# Altium integrated library Atmel Microcontroller 32-Bit ARM.IntLib: 116 symbols (part 8 of 10)
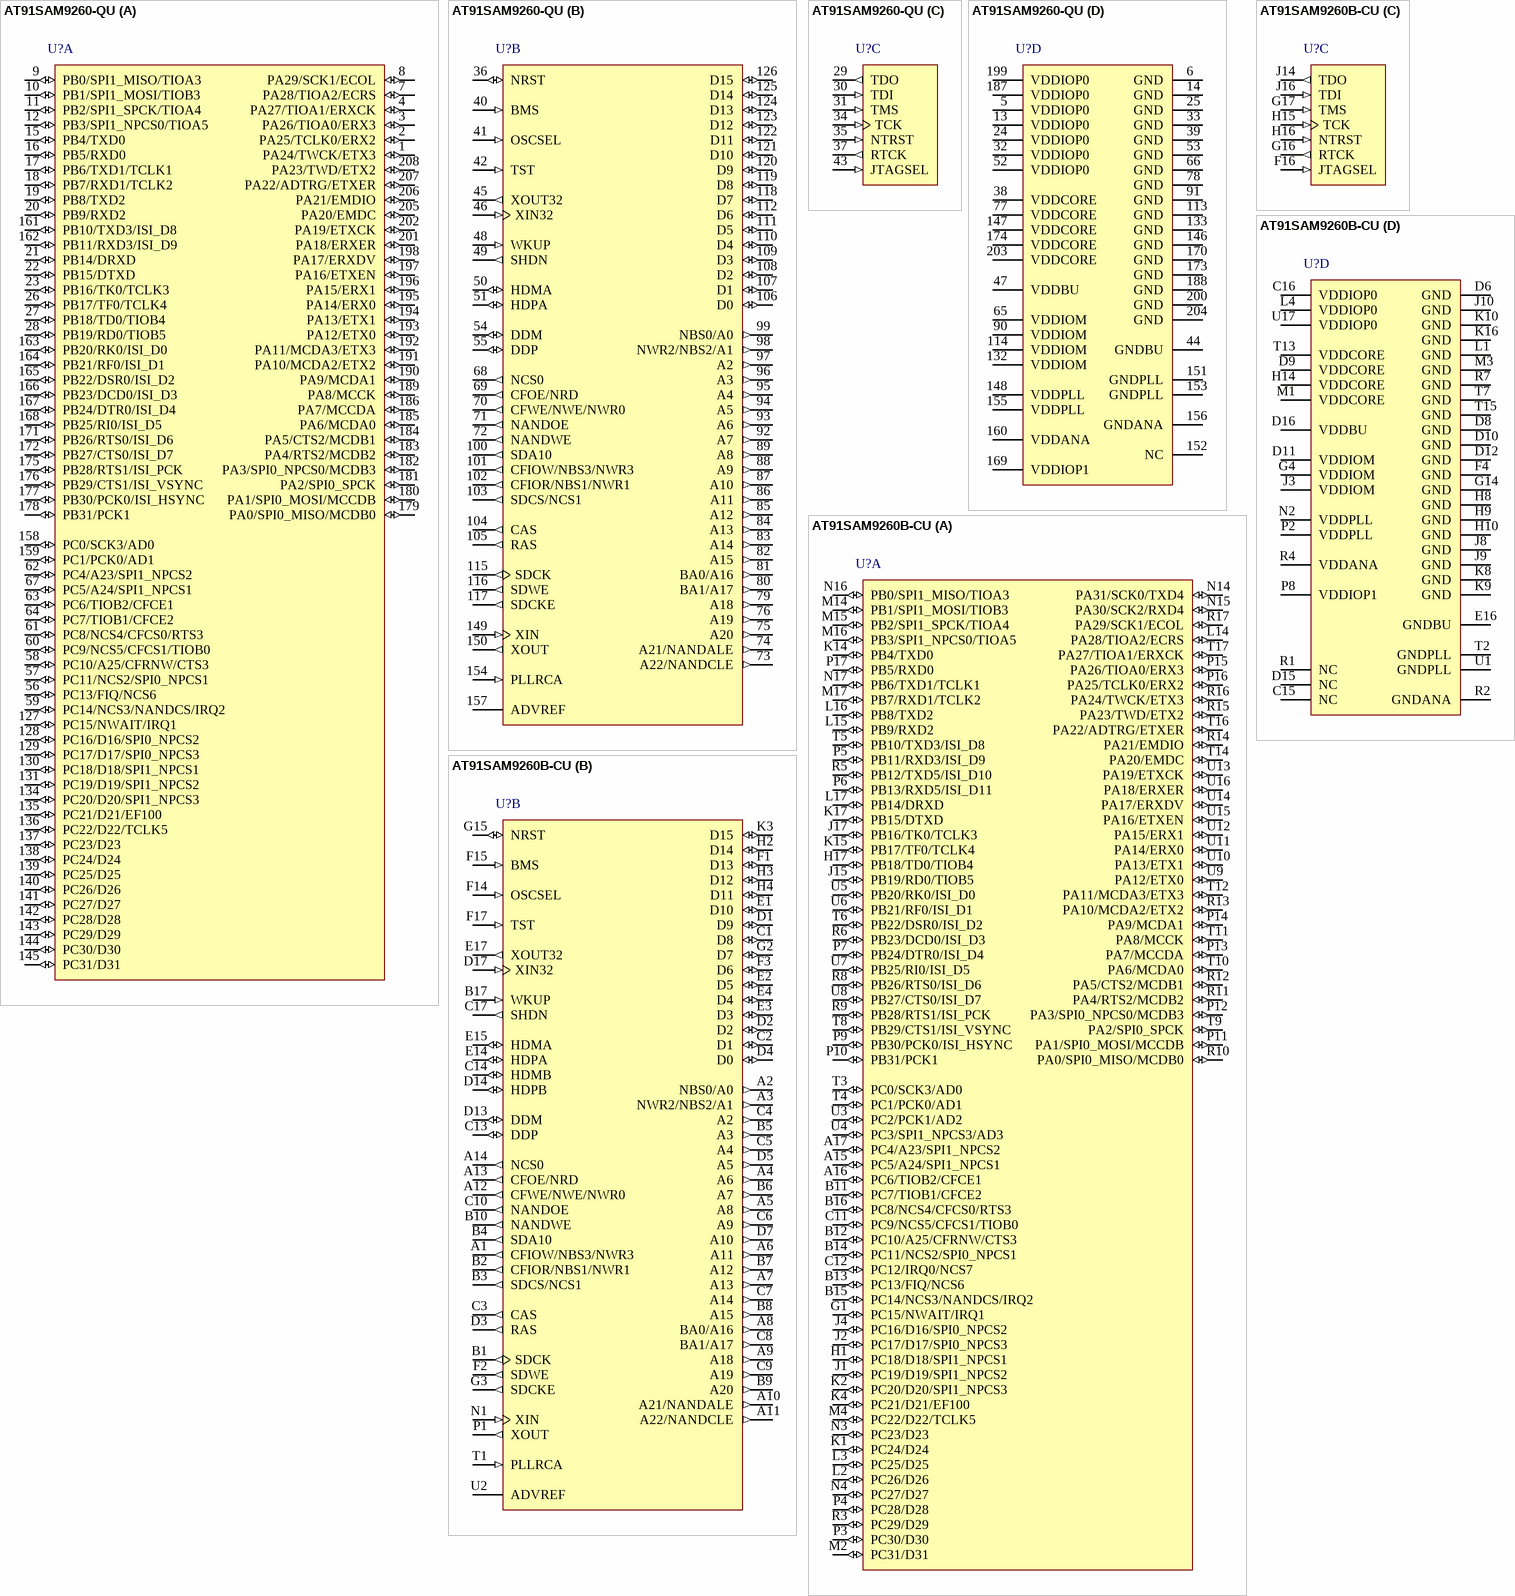
[diagram p59: symbols AT91SAM9260-QU to AT91SAM9260B-CU]

## AT91SAM9260B-CU
designator U?
AT91 ARM Thumb 32-bit Microcontroller, 32KB ROM, 2x4KB SRAM, EBI, E-MAC, FS USB, 217-Pin LFBGA, Industrial Grade (-40°C to 85°C), Pb-Free; Published: 20-Sep-2010; DatasheetVersion: revI, Jul-2009; PackageVersion: 2009; PackageReference: LFBGA217; Publisher: Altium Limited; PackageDescription: 217-Ball Plastic Low Profile Fine-Pitch BGA, 15 x 15 mm Body, 0.8 mm Pitch; Supplier 1: Digi-Key; Supplier Part Number 1: AT91SAM9260B-CU-ND; Supplier 2: Farnell; Supplier Part Number 2: 1715466; Supplier 3: Mouser; Supplier Part Number 3: 556-AT91SAM9260B-CU; Code_JEDEC: MO-205; ComponentLink1Description: Manufacturer Link; ComponentLink1URL: http://www.atmel.com/products/AT91/default.asp?; ComponentLink2Description: AT91SAM9260 Datasheet; ComponentLink2URL: http://www.atmel.com/dyn/resources/prod_documents/doc6221.pdf; ComponentLink3Description: AT91SAM9260 Summary; ComponentLink3URL: http://www.atmel.com/dyn/resources/prod_documents/6221s.pdf; ComponentLink4Description: ARM9E-S Reference Manual; ComponentLink4URL: http://www.atmel.com/dyn/resources/prod_documents/doc6178.pdf; ComponentLink5Description: Atmel.com Home; ComponentLink5URL: http://www.atmel.com
footprint LFBGA217 (BGA, 208-Leads, Body 15x15mm, Pitch 0.8mm)
part A pins: A15 PC5/A24/SPI1_NPCS1 (io), A16 PC6/TIOB2/CFCE1 (io), A17 PC4/A23/SPI1_NPCS2 (io), B11 PC7/TIOB1/CFCE2 (io), B12 PC10/A25/CFRNW/CTS3 (io), B13 PC13/FIQ/NCS6 (io), B14 PC11/NCS2/SPI0_NPCS1 (io), B15 PC14/NCS3/NANDCS/IRQ2 (io), B16 PC8/NCS4/CFCS0/RTS3 (io), C11 PC9/NCS5/CFCS1/TIOB0 (io), C12 PC12/IRQ0/NCS7 (io), G1 PC15/NWAIT/IRQ1 (io), H1 PC18/D18/SPI1_NPCS1 (io), H17 PB18/TD0/TIOB4 (io), J1 PC19/D19/SPI1_NPCS2 (io), J2 PC17/D17/SPI0_NPCS3 (io), J4 PC16/D16/SPI0_NPCS2 (io), J15 PB19/RD0/TIOB5 (io), J17 PB16/TK0/TCLK3 (io), K1 PC24/D24 (io), K2 PC20/D20/SPI1_NPCS3 (io), K4 PC21/D21/EF100 (io), K14 PB4/TXD0 (io), K15 PB17/TF0/TCLK4 (io), K17 PB15/DTXD (io), L2 PC26/D26 (io), L3 PC25/D25 (io), L14 PA28/TIOA2/ECRS (io), L15 PB9/RXD2 (io), L16 PB8/TXD2 (io), L17 PB14/DRXD (io), M2 PC31/D31 (io), M4 PC22/D22/TCLK5 (io), M14 PB1/SPI1_MOSI/TIOB3 (io), M15 PB2/SPI1_SPCK/TIOA4 (io), M16 PB3/SPI1_NPCS0/TIOA5 (io), M17 PB7/RXD1/TCLK2 (io), N3 PC23/D23 (io), N4 PC27/D27 (io), N14 PA31/SCK0/TXD4 (io), N15 PA30/SCK2/RXD4 (io), N16 PB0/SPI1_MISO/TIOA3 (io), N17 PB6/TXD1/TCLK1 (io), P3 PC30/D30 (io), P4 PC28/D28 (io), P5 PB11/RXD3/ISI_D9 (io), P6 PB13/RXD5/ISI_D11 (io), P7 PB24/DTR0/ISI_D4 (io), P9 PB30/PCK0/ISI_HSYNC (io), P10 PB31/PCK1 (io), P11 PA1/SPI0_MOSI/MCCDB (io), P12 PA3/SPI0_NPCS0/MCDB3 (io), P13 PA7/MCCDA (io), P14 PA9/MCDA1 (io), P15 PA26/TIOA0/ERX3 (io), P16 PA25/TCLK0/ERX2 (io), P17 PB5/RXD0 (io), R3 PC29/D29 (io), R5 PB12/TXD5/ISI_D10 (io), R6 PB23/DCD0/ISI_D3 (io), R8 PB26/RTS0/ISI_D6 (io), R9 PB28/RTS1/ISI_PCK (io), R10 PA0/SPI0_MISO/MCDB0 (io), R11 PA4/RTS2/MCDB2 (io), R12 PA5/CTS2/MCDB1 (io), R13 PA10/MCDA2/ETX2 (io), R14 PA21/EMDIO (io), R15 PA23/TWD/ETX2 (io), R16 PA24/TWCK/ETX3 (io), R17 PA29/SCK1/ECOL (io), T3 PC0/SCK3/AD0 (io), T4 PC1/PCK0/AD1 (io), T5 PB10/TXD3/ISI_D8 (io), T6 PB22/DSR0/ISI_D2 (io), T8 PB29/CTS1/ISI_VSYNC (io), T9 PA2/SPI0_SPCK (io), T10 PA6/MCDA0 (io), T11 PA8/MCCK (io), T12 PA11/MCDA3/ETX3 (io), T14 PA20/EMDC (io), T16 PA22/ADTRG/ETXER (io), T17 PA27/TIOA1/ERXCK (io), U3 PC2/PCK1/AD2 (io), U4 PC3/SPI1_NPCS3/AD3 (io), U5 PB20/RK0/ISI_D0 (io), U6 PB21/RF0/ISI_D1 (io), U7 PB25/RI0/ISI_D5 (io), U8 PB27/CTS0/ISI_D7 (io), U9 PA12/ETX0 (io), U10 PA13/ETX1 (io), U11 PA14/ERX0 (io), U12 PA15/ERX1 (io), U13 PA19/ETXCK (io), U14 PA17/ERXDV (io), U15 PA16/ETXEN (io), U16 PA18/ERXER (io)
part B pins: A1 CFIOW/NBS3/NWR3 (out), A2 NBS0/A0 (out), A3 NWR2/NBS2/A1 (out), A4 A6 (out), A5 A8 (out), A6 A11 (out), A7 A13 (out), A8 BA0/A16 (out), A9 A18 (out), A10 A21/NANDALE (out), A11 A22/NANDCLE (out), A12 CFWE/NWE/NWR0 (out), A13 CFOE/NRD (out), A14 NCS0 (out), B1 SDCK (out), B2 CFIOR/NBS1/NWR1 (out), B3 SDCS/NCS1 (out), B4 SDA10 (out), B5 A3 (out), B6 A7 (out), B7 A12 (out), B8 A15 (out), B9 A20 (out), B10 NANDWE (out), B17 WKUP (in), C1 D8 (io), C2 D1 (io), C3 CAS (out), C4 A2 (out), C5 A4 (out), C6 A9 (out), C7 A14 (out), C8 BA1/A17 (out), C9 A19 (out), C10 NANDOE (out), C13 DDP (io), C14 HDMB (io), C17 SHDN (out), D1 D9 (io), D2 (io), D3 RAS (out), D4 D0 (io), D5 A5 (out), D7 A10 (out), D13 DDM (io), D14 HDPB (io), D17 XIN32 (in), E1 D10 (io), E2 D5 (io), E3 D3 (io), E4 D4 (io), E14 HDPA (io), E15 HDMA (io), E17 XOUT32 (out), F1 D13 (io), F2 SDWE (out), F3 D6 (io), F14 OSCSEL (in), F15 BMS (in), F17 TST (in), G2 D7 (io), G3 SDCKE (out), G15 NRST (io), H2 D14 (io), H3 D12 (io), H4 D11 (io), K3 D15 (io), N1 XIN (in), P1 XOUT (out), T1 PLLRCA (in), U2 ADVREF (power)
part C pins: F16 JTAGSEL (in), G16 RTCK (out), G17 TMS (in), H15 TCK (in), H16 NTRST (in), J14 TDO (out), J16 TDI (in)
part D pins: C15 NC, C16 VDDIOP0 (power), D6 GND (power), D8 GND (power), D9 VDDCORE (power), D10 GND (power), D11 VDDIOM (power), D12 GND (power), D15 NC, D16 VDDBU (power), E16 GNDBU (power), F4 GND (power), G4 VDDIOM (power), G14 GND (power), H8 GND (power), H9 GND (power), H10 GND (power), H14 VDDCORE (power), J3 VDDIOM (power), J8 GND (power), J9 GND (power), J10 GND (power), K8 GND (power), K9 GND (power), K10 GND (power), K16 GND (power), L1 GND (power), L4 VDDIOP0 (power), M1 VDDCORE (power), M3 GND (power), N2 VDDPLL (power), P2 VDDPLL (power), P8 VDDIOP1 (power), R1 NC, R2 GNDANA (power), R4 VDDANA (power), R7 GND (power), T2 GNDPLL (power), T7 GND (power), T13 VDDCORE (power), T15 GND (power), U1 GNDPLL (power), U17 VDDIOP0 (power)

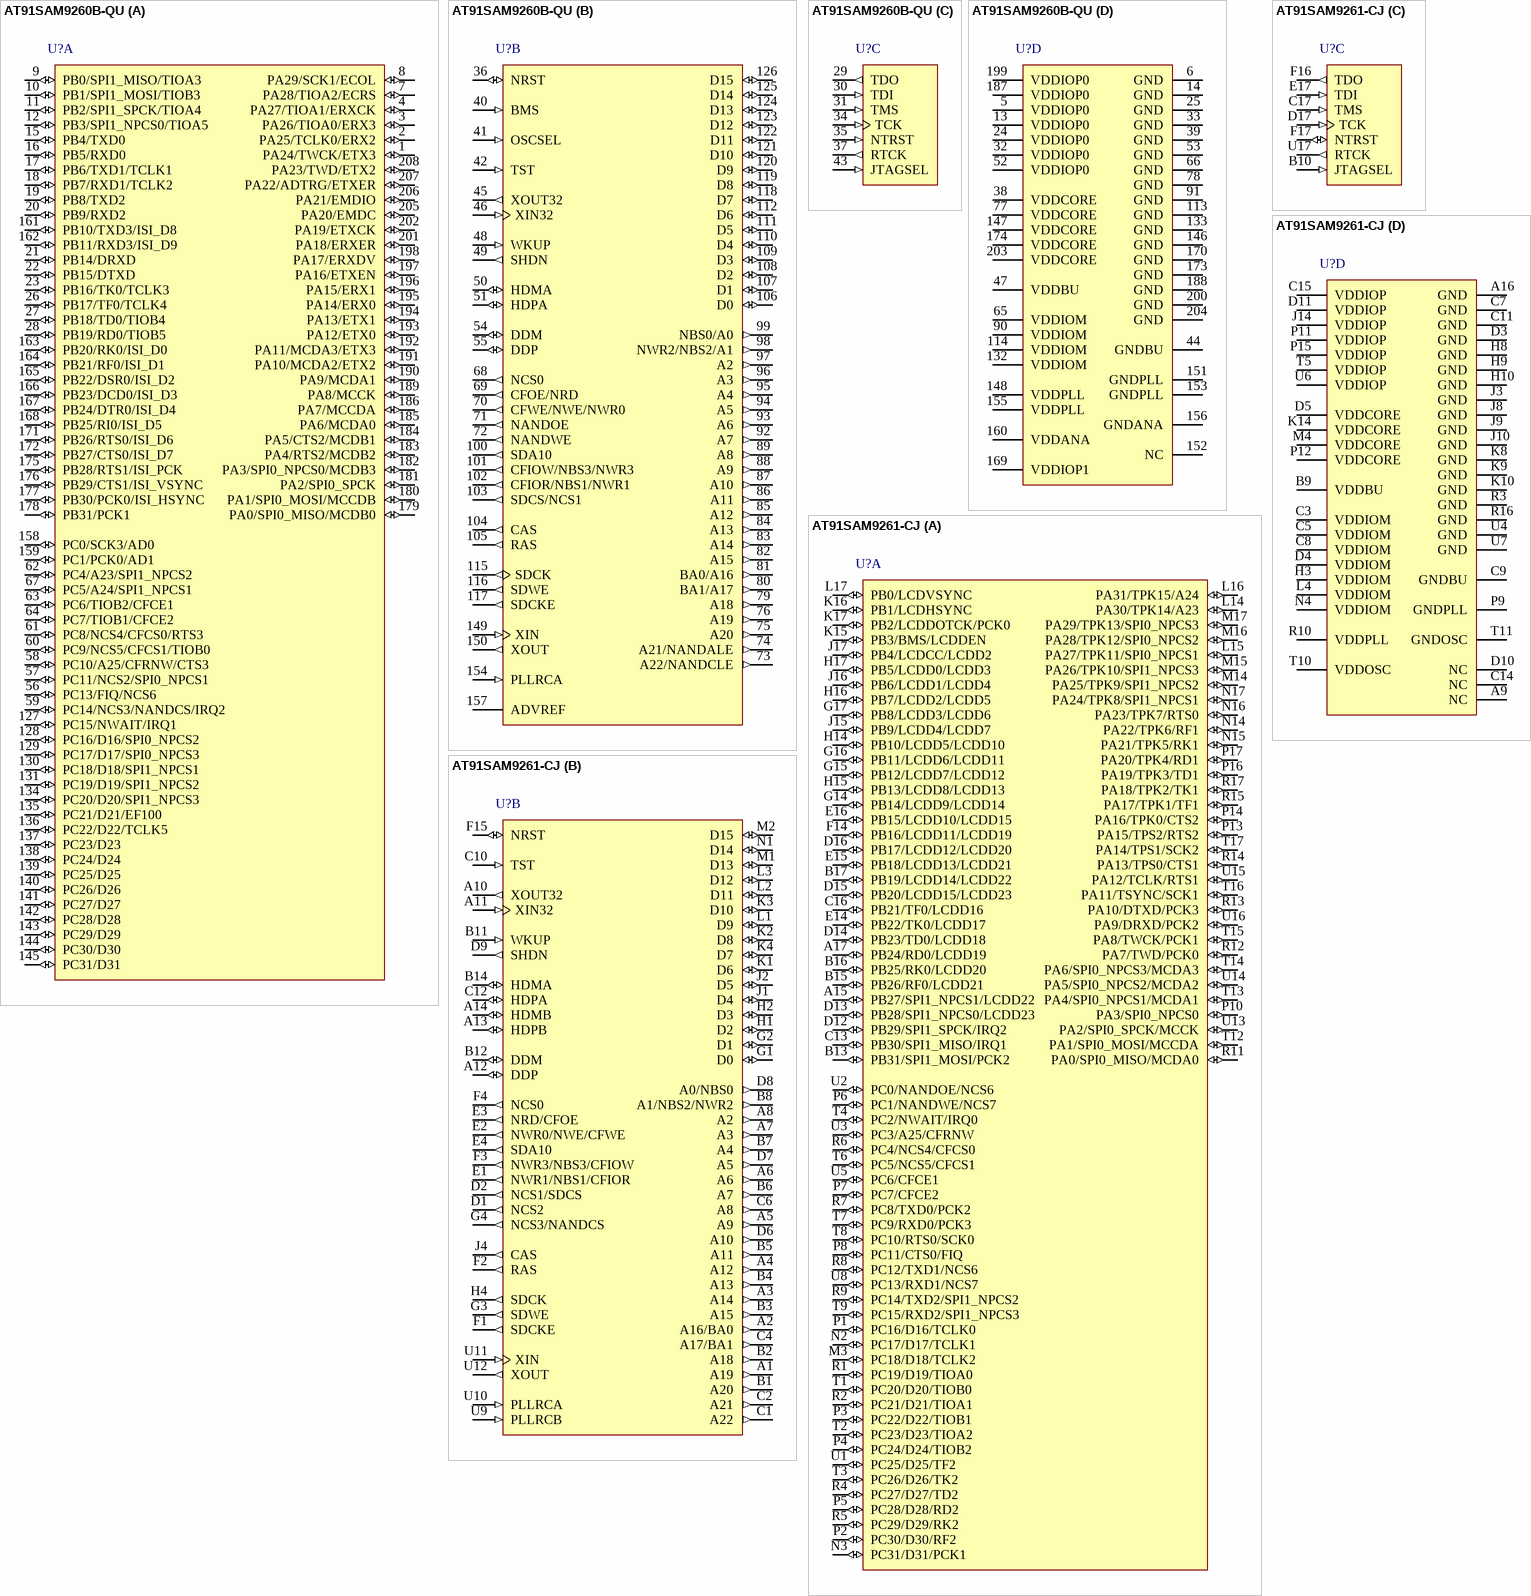
[diagram p41: symbols AT91SAM9260B-QU to AT91SAM9261-CJ]

## AT91SAM9260B-QU
designator U?
AT91 ARM Thumb 32-bit Microcontroller, 32KB ROM, 2x4KB SRAM, EBI, E-MAC, FS USB, 208-Pin PQFP, Industrial Grade (-40°C to 85°C), Pb-Free; Published: 20-Sep-2010; DatasheetVersion: revI, Jul-2009; PackageVersion: Jul-2005; PackageReference: QFP208; Publisher: Altium Limited; PackageDescription: 208-Pin Plastic Shrink Quad Flat Pack 0.5 mm Pitch; Supplier 1: Digi-Key; Supplier Part Number 1: AT91SAM9260B-QU-ND; Supplier 2: Mouser; Supplier Part Number 2: 556-AT91SAM9260B-QU; Code_JEDEC: MS-022; ComponentLink1Description: Manufacturer Link; ComponentLink1URL: http://www.atmel.com/products/AT91/default.asp?; ComponentLink2Description: AT91SAM9260 Datasheet; ComponentLink2URL: http://www.atmel.com/dyn/resources/prod_documents/doc6221.pdf; ComponentLink3Description: AT91SAM9260 Summary; ComponentLink3URL: http://www.atmel.com/dyn/resources/prod_documents/6221s.pdf; ComponentLink4Description: ARM9E-S Reference Manual; ComponentLink4URL: http://www.atmel.com/dyn/resources/prod_documents/doc6178.pdf; ComponentLink5Description: Atmel.com Home; ComponentLink5URL: http://www.atmel.com
footprint QFP208_N (Shrink QFP, 208-Leads, Body 28x28mm, Pitch 0.5mm, IPC Medium Density)
footprint QFP208_L (Shrink QFP, 208-Leads, Body 28x28mm, Pitch 0.5mm, IPC High Density)
footprint QFP208_M (Shrink QFP, 208-Leads, Body 28x28mm, Pitch 0.5mm, IPC Low Density)
part A pins: 1 PA24/TWCK/ETX3 (io), 2 PA25/TCLK0/ERX2 (io), 3 PA26/TIOA0/ERX3 (io), 4 PA27/TIOA1/ERXCK (io), 7 PA28/TIOA2/ECRS (io), 8 PA29/SCK1/ECOL (io), 9 PB0/SPI1_MISO/TIOA3 (io), 10 PB1/SPI1_MOSI/TIOB3 (io), 11 PB2/SPI1_SPCK/TIOA4 (io), 12 PB3/SPI1_NPCS0/TIOA5 (io), 15 PB4/TXD0 (io), 16 PB5/RXD0 (io), 17 PB6/TXD1/TCLK1 (io), 18 PB7/RXD1/TCLK2 (io), 19 PB8/TXD2 (io), 20 PB9/RXD2 (io), 21 PB14/DRXD (io), 22 PB15/DTXD (io), 23 PB16/TK0/TCLK3 (io), 26 PB17/TF0/TCLK4 (io), 27 PB18/TD0/TIOB4 (io), 28 PB19/RD0/TIOB5 (io), 56 PC13/FIQ/NCS6 (io), 57 PC11/NCS2/SPI0_NPCS1 (io), 58 PC10/A25/CFRNW/CTS3 (io), 59 PC14/NCS3/NANDCS/IRQ2 (io), 60 PC9/NCS5/CFCS1/TIOB0 (io), 61 PC8/NCS4/CFCS0/RTS3 (io), 62 PC4/A23/SPI1_NPCS2 (io), 63 PC6/TIOB2/CFCE1 (io), 64 PC7/TIOB1/CFCE2 (io), 67 PC5/A24/SPI1_NPCS1 (io), 127 PC15/NWAIT/IRQ1 (io), 128 PC16/D16/SPI0_NPCS2 (io), 129 PC17/D17/SPI0_NPCS3 (io), 130 PC18/D18/SPI1_NPCS1 (io), 131 PC19/D19/SPI1_NPCS2 (io), 134 PC20/D20/SPI1_NPCS3 (io), 135 PC21/D21/EF100 (io), 136 PC22/D22/TCLK5 (io), 137 PC23/D23 (io), 138 PC24/D24 (io), 139 PC25/D25 (io), 140 PC26/D26 (io), 141 PC27/D27 (io), 142 PC28/D28 (io), 143 PC29/D29 (io), 144 PC30/D30 (io), 145 PC31/D31 (io), 158 PC0/SCK3/AD0 (io), 159 PC1/PCK0/AD1 (io), 161 PB10/TXD3/ISI_D8 (io), 162 PB11/RXD3/ISI_D9 (io), 163 PB20/RK0/ISI_D0 (io), 164 PB21/RF0/ISI_D1 (io), 165 PB22/DSR0/ISI_D2 (io), 166 PB23/DCD0/ISI_D3 (io), 167 PB24/DTR0/ISI_D4 (io), 168 PB25/RI0/ISI_D5 (io), 171 PB26/RTS0/ISI_D6 (io), 172 PB27/CTS0/ISI_D7 (io), 175 PB28/RTS1/ISI_PCK (io), 176 PB29/CTS1/ISI_VSYNC (io), 177 PB30/PCK0/ISI_HSYNC (io), 178 PB31/PCK1 (io), 179 PA0/SPI0_MISO/MCDB0 (io), 180 PA1/SPI0_MOSI/MCCDB (io), 181 PA2/SPI0_SPCK (io), 182 PA3/SPI0_NPCS0/MCDB3 (io), 183 PA4/RTS2/MCDB2 (io), 184 PA5/CTS2/MCDB1 (io), 185 PA6/MCDA0 (io), 186 PA7/MCCDA (io), 189 PA8/MCCK (io), 190 PA9/MCDA1 (io), 191 PA10/MCDA2/ETX2 (io), 192 PA11/MCDA3/ETX3 (io), 193 PA12/ETX0 (io), 194 PA13/ETX1 (io), 195 PA14/ERX0 (io), 196 PA15/ERX1 (io), 197 PA16/ETXEN (io), 198 PA17/ERXDV (io), 201 PA18/ERXER (io), 202 PA19/ETXCK (io), 205 PA20/EMDC (io), 206 PA21/EMDIO (io), 207 PA22/ADTRG/ETXER (io), 208 PA23/TWD/ETX2 (io)
part B pins: 36 NRST (io), 40 BMS (in), 41 OSCSEL (in), 42 TST (in), 45 XOUT32 (out), 46 XIN32 (in), 48 WKUP (in), 49 SHDN (out), 50 HDMA (io), 51 HDPA (io), 54 DDM (io), 55 DDP (io), 68 NCS0 (out), 69 CFOE/NRD (out), 70 CFWE/NWE/NWR0 (out), 71 NANDOE (out), 72 NANDWE (out), 73 A22/NANDCLE (out), 74 A21/NANDALE (out), 75 A20 (out), 76 A19 (out), 79 A18 (out), 80 BA1/A17 (out), 81 BA0/A16 (out), 82 A15 (out), 83 A14 (out), 84 A13 (out), 85 A12 (out), 86 A11 (out), 87 A10 (out), 88 A9 (out), 89 A8 (out), 92 A7 (out), 93 A6 (out), 94 A5 (out), 95 A4 (out), 96 A3 (out), 97 A2 (out), 98 NWR2/NBS2/A1 (out), 99 NBS0/A0 (out), 100 SDA10 (out), 101 CFIOW/NBS3/NWR3 (out), 102 CFIOR/NBS1/NWR1 (out), 103 SDCS/NCS1 (out), 104 CAS (out), 105 RAS (out), 106 D0 (io), 107 D1 (io), 108 D2 (io), 109 D3 (io), 110 D4 (io), 111 D5 (io), 112 D6 (io), 115 SDCK (out), 116 SDWE (out), 117 SDCKE (out), 118 D7 (io), 119 D8 (io), 120 D9 (io), 121 D10 (io), 122 D11 (io), 123 D12 (io), 124 D13 (io), 125 D14 (io), 126 D15 (io), 149 XIN (in), 150 XOUT (out), 154 PLLRCA (in), 157 ADVREF (power)
part C pins: 29 TDO (out), 30 TDI (in), 31 TMS (in), 34 TCK (in), 35 NTRST (in), 37 RTCK (out), 43 JTAGSEL (in)
part D pins: 5 VDDIOP0 (power), 6 GND (power), 13 VDDIOP0 (power), 14 GND (power), 24 VDDIOP0 (power), 25 GND (power), 32 VDDIOP0 (power), 33 GND (power), 38 VDDCORE (power), 39 GND (power), 44 GNDBU (power), 47 VDDBU (power), 52 VDDIOP0 (power), 53 GND (power), 65 VDDIOM (power), 66 GND (power), 77 VDDCORE (power), 78 GND (power), 90 VDDIOM (power), 91 GND (power), 113 GND (power), 114 VDDIOM (power), 132 VDDIOM (power), 133 GND (power), 146 GND (power), 147 VDDCORE (power), 148 VDDPLL (power), 151 GNDPLL (power), 152 NC, 153 GNDPLL (power), 155 VDDPLL (power), 156 GNDANA (power), 160 VDDANA (power), 169 VDDIOP1 (power), 170 GND (power), 173 GND (power), 174 VDDCORE (power), 187 VDDIOP0 (power), 188 GND (power), 199 VDDIOP0 (power), 200 GND (power), 203 VDDCORE (power), 204 GND (power)

## AT91SAM9261-CJ
designator U?
AT91 ARM Thumb 32-bit Microcontroller, Ultra Low Power, 160KB SRAM, EBI, FS USB, LCD Controller, 217-Pin LFBGA, Industrial Grade (-40°C to 85°C), Pb-Free; Published: 20-Sep-2010; DatasheetVersion: revM, Mar-2009; PackageVersion: 2009; PackageReference: LFBGA217; Publisher: Altium Limited; PackageDescription: 217-Ball Plastic Low Profile Fine-Pitch BGA, 15 x 15 mm Body, 0.8 mm Pitch; Supplier 1: Digi-Key; Supplier Part Number 1: AT91SAM9261-CJ-ND; Supplier 2: Mouser; Supplier Part Number 2: 556-A91SAM9261-CJ; Code_JEDEC: MO-205; ComponentLink1Description: Manufacturer Link; ComponentLink1URL: http://www.atmel.com/products/AT91/default.asp?; ComponentLink2Description: AT91SAM9261 Datasheet; ComponentLink2URL: http://www.atmel.com/dyn/resources/prod_documents/doc6062.pdf; ComponentLink3Description: AT91SAM9261 Summary; ComponentLink3URL: http://www.atmel.com/dyn/resources/prod_documents/6062s.pdf; ComponentLink4Description: ARM926EJ-S Reference Manual; ComponentLink4URL: http://www.atmel.com/dyn/resources/prod_documents/ARM_926EJS_TRM.pdf; ComponentLink5Description: Atmel.com Home; ComponentLink5URL: http://www.atmel.com
footprint LFBGA217 (BGA, 208-Leads, Body 15x15mm, Pitch 0.8mm)
part A pins: A15 PB27/SPI1_NPCS1/LCDD22 (io), A17 PB24/RD0/LCDD19 (io), B13 PB31/SPI1_MOSI/PCK2 (io), B15 PB26/RF0/LCDD21 (io), B16 PB25/RK0/LCDD20 (io), B17 PB19/LCDD14/LCDD22 (io), C13 PB30/SPI1_MISO/IRQ1 (io), C16 PB21/TF0/LCDD16 (io), D12 PB29/SPI1_SPCK/IRQ2 (io), D13 PB28/SPI1_NPCS0/LCDD23 (io), D14 PB23/TD0/LCDD18 (io), D15 PB20/LCDD15/LCDD23 (io), D16 PB17/LCDD12/LCDD20 (io), E14 PB22/TK0/LCDD17 (io), E15 PB18/LCDD13/LCDD21 (io), E16 PB15/LCDD10/LCDD15 (io), F14 PB16/LCDD11/LCDD19 (io), G14 PB14/LCDD9/LCDD14 (io), G15 PB12/LCDD7/LCDD12 (io), G16 PB11/LCDD6/LCDD11 (io), G17 PB8/LCDD3/LCDD6 (io), H14 PB10/LCDD5/LCDD10 (io), H15 PB13/LCDD8/LCDD13 (io), H16 PB7/LCDD2/LCDD5 (io), H17 PB5/LCDD0/LCDD3 (io), J15 PB9/LCDD4/LCDD7 (io), J16 PB6/LCDD1/LCDD4 (io), J17 PB4/LCDCC/LCDD2 (io), K15 PB3/BMS/LCDDEN (io), K16 PB1/LCDHSYNC (io), K17 PB2/LCDDOTCK/PCK0 (io), L14 PA30/TPK14/A23 (io), L15 PA27/TPK11/SPI0_NPCS1 (io), L16 PA31/TPK15/A24 (io), L17 PB0/LCDVSYNC (io), M3 PC18/D18/TCLK2 (io), M14 PA25/TPK9/SPI1_NPCS2 (io), M15 PA26/TPK10/SPI1_NPCS3 (io), M16 PA28/TPK12/SPI0_NPCS2 (io), M17 PA29/TPK13/SPI0_NPCS3 (io), N2 PC17/D17/TCLK1 (io), N3 PC31/D31/PCK1 (io), N14 PA22/TPK6/RF1 (io), N15 PA21/TPK5/RK1 (io), N16 PA23/TPK7/RTS0 (io), N17 PA24/TPK8/SPI1_NPCS1 (io), P1 PC16/D16/TCLK0 (io), P2 PC30/D30/RF2 (io), P3 PC22/D22/TIOB1 (io), P4 PC24/D24/TIOB2 (io), P5 PC28/D28/RD2 (io), P6 PC1/NANDWE/NCS7 (io), P7 PC7/CFCE2 (io), P8 PC11/CTS0/FIQ (io), P10 PA3/SPI0_NPCS0 (io), P13 PA15/TPS2/RTS2 (io), P14 PA16/TPK0/CTS2 (io), P16 PA19/TPK3/TD1 (io), P17 PA20/TPK4/RD1 (io), R1 PC19/D19/TIOA0 (io), R2 PC21/D21/TIOA1 (io), R4 PC27/D27/TD2 (io), R5 PC29/D29/RK2 (io), R6 PC4/NCS4/CFCS0 (io), R7 PC8/TXD0/PCK2 (io), R8 PC12/TXD1/NCS6 (io), R9 PC14/TXD2/SPI1_NPCS2 (io), R11 PA0/SPI0_MISO/MCDA0 (io), R12 PA7/TWD/PCK0 (io), R13 PA10/DTXD/PCK3 (io), R14 PA13/TPS0/CTS1 (io), R15 PA17/TPK1/TF1 (io), R17 PA18/TPK2/TK1 (io), T1 PC20/D20/TIOB0 (io), T2 PC23/D23/TIOA2 (io), T3 PC26/D26/TK2 (io), T4 PC2/NWAIT/IRQ0 (io), T6 PC5/NCS5/CFCS1 (io), T7 PC9/RXD0/PCK3 (io), T8 PC10/RTS0/SCK0 (io), T9 PC15/RXD2/SPI1_NPCS3 (io), T12 PA1/SPI0_MOSI/MCCDA (io), T13 PA4/SPI0_NPCS1/MCDA1 (io), T14 PA6/SPI0_NPCS3/MCDA3 (io), T15 PA8/TWCK/PCK1 (io), T16 PA11/TSYNC/SCK1 (io), T17 PA14/TPS1/SCK2 (io), U1 PC25/D25/TF2 (io), U2 PC0/NANDOE/NCS6 (io), U3 PC3/A25/CFRNW (io), U5 PC6/CFCE1 (io), U8 PC13/RXD1/NCS7 (io), U13 PA2/SPI0_SPCK/MCCK (io), U14 PA5/SPI0_NPCS2/MCDA2 (io), U15 PA12/TCLK/RTS1 (io), U16 PA9/DRXD/PCK2 (io)
part B pins: A1 A19 (out), A2 A16/BA0 (out), A3 A14 (out), A4 A12 (out), A5 A9 (out), A6 (out), A7 A3 (out), A8 A2 (out), A10 XOUT32 (out), A11 XIN32 (in), A12 DDP (io), A13 HDPB (io), A14 HDMB (io), B1 A20 (out), B2 A18 (out), B3 A15 (out), B4 A13 (out), B5 A11 (out), B6 A7 (out), B7 A4 (out), B8 A1/NBS2/NWR2 (out), B11 WKUP (in), B12 DDM (io), B14 HDMA (io), C1 A22 (out), C2 A21 (out), C4 A17/BA1 (out), C6 A8 (out), C10 TST (in), C12 HDPA (io), D1 NCS2 (out), D2 NCS1/SDCS (out), D6 A10 (out), D7 A5 (out), D8 A0/NBS0 (out), D9 SHDN (out), E1 NWR1/NBS1/CFIOR (out), E2 NWR0/NWE/CFWE (out), E3 NRD/CFOE (out), E4 SDA10 (out), F1 SDCKE (out), F2 RAS (out), F3 NWR3/NBS3/CFIOW (out), F4 NCS0 (out), F15 NRST (io), G1 D0 (io), G2 D1 (io), G3 SDWE (out), G4 NCS3/NANDCS (out), H1 D2 (io), H2 D3 (io), H4 SDCK (out), J1 D4 (io), J2 D5 (io), J4 CAS (out), K1 D6 (io), K2 D8 (io), K3 D10 (io), K4 D7 (io), L1 D9 (io), L2 D11 (io), L3 D12 (io), M1 D13 (io), M2 D15 (io), N1 D14 (io), U9 PLLRCB (in), U10 PLLRCA (in), U11 XIN (in), U12 XOUT (out)
part C pins: B10 JTAGSEL (in), C17 TMS (in), D17 TCK (in), E17 TDI (in), F16 TDO (out), F17 NTRST (io), U17 RTCK (out)
part D pins: A9 NC, A16 GND (power), B9 VDDBU (power), C3 VDDIOM (power), C5 VDDIOM (power), C7 GND (power), C8 VDDIOM (power), C9 GNDBU (power), C11 GND (power), C14 NC, C15 VDDIOP (power), D3 GND (power), D4 VDDIOM (power), D5 VDDCORE (power), D10 NC, D11 VDDIOP (power), H3 VDDIOM (power), H8 GND (power), H9 GND (power), H10 GND (power), J3 GND (power), J8 GND (power), J9 GND (power), J10 GND (power), J14 VDDIOP (power), K8 GND (power), K9 GND (power), K10 GND (power), K14 VDDCORE (power), L4 VDDIOM (power), M4 VDDCORE (power), N4 VDDIOM (power), P9 GNDPLL (power), P11 VDDIOP (power), P12 VDDCORE (power), P15 VDDIOP (power), R3 GND (power), R10 VDDPLL (power), R16 GND (power), T5 VDDIOP (power), T10 VDDOSC (power), T11 GNDOSC (power), U4 GND (power), U6 VDDIOP (power), U7 GND (power)

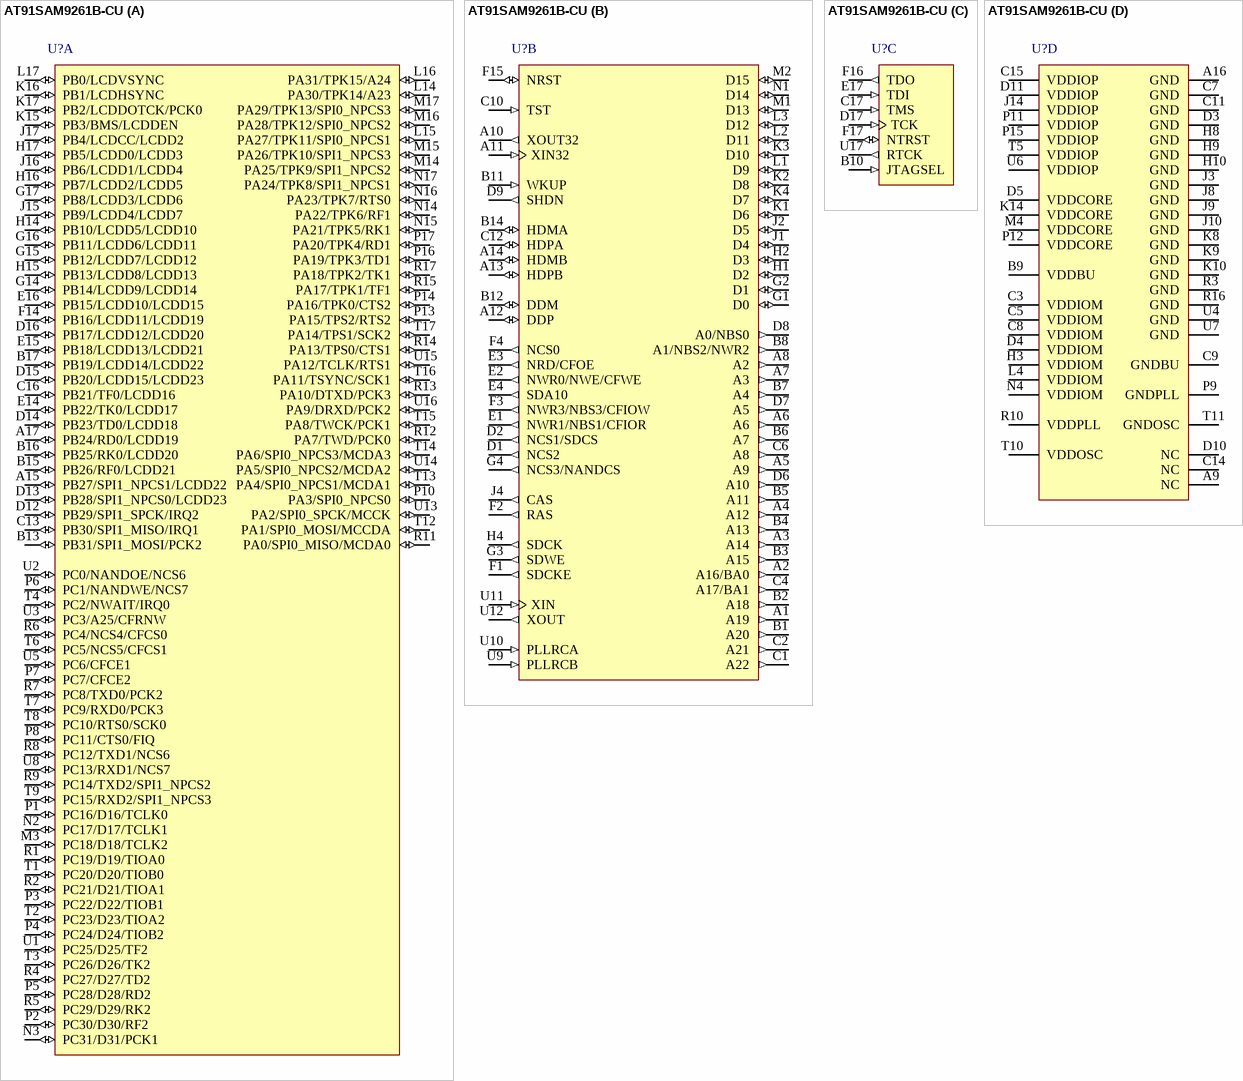
[diagram p42: symbol AT91SAM9261B-CU]

## AT91SAM9261B-CU
designator U?
AT91 ARM Thumb 32-bit Microcontroller, Ultra Low Power, 160KB SRAM, EBI, FS USB, LCD Controller, 217-Pin LFBGA, Industrial Grade (-40°C to 85°C), Pb-Free; Published: 20-Sep-2010; DatasheetVersion: revM, Mar-2009; PackageVersion: 2009; PackageReference: LFBGA217; Publisher: Altium Limited; PackageDescription: 217-Ball Plastic Low Profile Fine-Pitch BGA, 15 x 15 mm Body, 0.8 mm Pitch; Supplier 1: Digi-Key; Supplier Part Number 1: AT91SAM9261B-CU-ND; Supplier 2: Farnell; Supplier Part Number 2: 1748504; Supplier 3: Mouser; Supplier Part Number 3: 556-AT91SAM9261B-CU; Code_JEDEC: MO-205; ComponentLink1Description: Manufacturer Link; ComponentLink1URL: http://www.atmel.com/products/AT91/default.asp?; ComponentLink2Description: AT91SAM9261 Datasheet; ComponentLink2URL: http://www.atmel.com/dyn/resources/prod_documents/doc6062.pdf; ComponentLink3Description: AT91SAM9261 Summary; ComponentLink3URL: http://www.atmel.com/dyn/resources/prod_documents/6062s.pdf; ComponentLink4Description: ARM926EJ-S Reference Manual; ComponentLink4URL: http://www.atmel.com/dyn/resources/prod_documents/ARM_926EJS_TRM.pdf; ComponentLink5Description: Atmel.com Home; ComponentLink5URL: http://www.atmel.com
footprint LFBGA217 (BGA, 208-Leads, Body 15x15mm, Pitch 0.8mm)
part A pins: A15 PB27/SPI1_NPCS1/LCDD22 (io), A17 PB24/RD0/LCDD19 (io), B13 PB31/SPI1_MOSI/PCK2 (io), B15 PB26/RF0/LCDD21 (io), B16 PB25/RK0/LCDD20 (io), B17 PB19/LCDD14/LCDD22 (io), C13 PB30/SPI1_MISO/IRQ1 (io), C16 PB21/TF0/LCDD16 (io), D12 PB29/SPI1_SPCK/IRQ2 (io), D13 PB28/SPI1_NPCS0/LCDD23 (io), D14 PB23/TD0/LCDD18 (io), D15 PB20/LCDD15/LCDD23 (io), D16 PB17/LCDD12/LCDD20 (io), E14 PB22/TK0/LCDD17 (io), E15 PB18/LCDD13/LCDD21 (io), E16 PB15/LCDD10/LCDD15 (io), F14 PB16/LCDD11/LCDD19 (io), G14 PB14/LCDD9/LCDD14 (io), G15 PB12/LCDD7/LCDD12 (io), G16 PB11/LCDD6/LCDD11 (io), G17 PB8/LCDD3/LCDD6 (io), H14 PB10/LCDD5/LCDD10 (io), H15 PB13/LCDD8/LCDD13 (io), H16 PB7/LCDD2/LCDD5 (io), H17 PB5/LCDD0/LCDD3 (io), J15 PB9/LCDD4/LCDD7 (io), J16 PB6/LCDD1/LCDD4 (io), J17 PB4/LCDCC/LCDD2 (io), K15 PB3/BMS/LCDDEN (io), K16 PB1/LCDHSYNC (io), K17 PB2/LCDDOTCK/PCK0 (io), L14 PA30/TPK14/A23 (io), L15 PA27/TPK11/SPI0_NPCS1 (io), L16 PA31/TPK15/A24 (io), L17 PB0/LCDVSYNC (io), M3 PC18/D18/TCLK2 (io), M14 PA25/TPK9/SPI1_NPCS2 (io), M15 PA26/TPK10/SPI1_NPCS3 (io), M16 PA28/TPK12/SPI0_NPCS2 (io), M17 PA29/TPK13/SPI0_NPCS3 (io), N2 PC17/D17/TCLK1 (io), N3 PC31/D31/PCK1 (io), N14 PA22/TPK6/RF1 (io), N15 PA21/TPK5/RK1 (io), N16 PA23/TPK7/RTS0 (io), N17 PA24/TPK8/SPI1_NPCS1 (io), P1 PC16/D16/TCLK0 (io), P2 PC30/D30/RF2 (io), P3 PC22/D22/TIOB1 (io), P4 PC24/D24/TIOB2 (io), P5 PC28/D28/RD2 (io), P6 PC1/NANDWE/NCS7 (io), P7 PC7/CFCE2 (io), P8 PC11/CTS0/FIQ (io), P10 PA3/SPI0_NPCS0 (io), P13 PA15/TPS2/RTS2 (io), P14 PA16/TPK0/CTS2 (io), P16 PA19/TPK3/TD1 (io), P17 PA20/TPK4/RD1 (io), R1 PC19/D19/TIOA0 (io), R2 PC21/D21/TIOA1 (io), R4 PC27/D27/TD2 (io), R5 PC29/D29/RK2 (io), R6 PC4/NCS4/CFCS0 (io), R7 PC8/TXD0/PCK2 (io), R8 PC12/TXD1/NCS6 (io), R9 PC14/TXD2/SPI1_NPCS2 (io), R11 PA0/SPI0_MISO/MCDA0 (io), R12 PA7/TWD/PCK0 (io), R13 PA10/DTXD/PCK3 (io), R14 PA13/TPS0/CTS1 (io), R15 PA17/TPK1/TF1 (io), R17 PA18/TPK2/TK1 (io), T1 PC20/D20/TIOB0 (io), T2 PC23/D23/TIOA2 (io), T3 PC26/D26/TK2 (io), T4 PC2/NWAIT/IRQ0 (io), T6 PC5/NCS5/CFCS1 (io), T7 PC9/RXD0/PCK3 (io), T8 PC10/RTS0/SCK0 (io), T9 PC15/RXD2/SPI1_NPCS3 (io), T12 PA1/SPI0_MOSI/MCCDA (io), T13 PA4/SPI0_NPCS1/MCDA1 (io), T14 PA6/SPI0_NPCS3/MCDA3 (io), T15 PA8/TWCK/PCK1 (io), T16 PA11/TSYNC/SCK1 (io), T17 PA14/TPS1/SCK2 (io), U1 PC25/D25/TF2 (io), U2 PC0/NANDOE/NCS6 (io), U3 PC3/A25/CFRNW (io), U5 PC6/CFCE1 (io), U8 PC13/RXD1/NCS7 (io), U13 PA2/SPI0_SPCK/MCCK (io), U14 PA5/SPI0_NPCS2/MCDA2 (io), U15 PA12/TCLK/RTS1 (io), U16 PA9/DRXD/PCK2 (io)
part B pins: A1 A19 (out), A2 A16/BA0 (out), A3 A14 (out), A4 A12 (out), A5 A9 (out), A6 (out), A7 A3 (out), A8 A2 (out), A10 XOUT32 (out), A11 XIN32 (in), A12 DDP (io), A13 HDPB (io), A14 HDMB (io), B1 A20 (out), B2 A18 (out), B3 A15 (out), B4 A13 (out), B5 A11 (out), B6 A7 (out), B7 A4 (out), B8 A1/NBS2/NWR2 (out), B11 WKUP (in), B12 DDM (io), B14 HDMA (io), C1 A22 (out), C2 A21 (out), C4 A17/BA1 (out), C6 A8 (out), C10 TST (in), C12 HDPA (io), D1 NCS2 (out), D2 NCS1/SDCS (out), D6 A10 (out), D7 A5 (out), D8 A0/NBS0 (out), D9 SHDN (out), E1 NWR1/NBS1/CFIOR (out), E2 NWR0/NWE/CFWE (out), E3 NRD/CFOE (out), E4 SDA10 (out), F1 SDCKE (out), F2 RAS (out), F3 NWR3/NBS3/CFIOW (out), F4 NCS0 (out), F15 NRST (io), G1 D0 (io), G2 D1 (io), G3 SDWE (out), G4 NCS3/NANDCS (out), H1 D2 (io), H2 D3 (io), H4 SDCK (out), J1 D4 (io), J2 D5 (io), J4 CAS (out), K1 D6 (io), K2 D8 (io), K3 D10 (io), K4 D7 (io), L1 D9 (io), L2 D11 (io), L3 D12 (io), M1 D13 (io), M2 D15 (io), N1 D14 (io), U9 PLLRCB (in), U10 PLLRCA (in), U11 XIN (in), U12 XOUT (out)
part C pins: B10 JTAGSEL (in), C17 TMS (in), D17 TCK (in), E17 TDI (in), F16 TDO (out), F17 NTRST (io), U17 RTCK (out)
part D pins: A9 NC, A16 GND (power), B9 VDDBU (power), C3 VDDIOM (power), C5 VDDIOM (power), C7 GND (power), C8 VDDIOM (power), C9 GNDBU (power), C11 GND (power), C14 NC, C15 VDDIOP (power), D3 GND (power), D4 VDDIOM (power), D5 VDDCORE (power), D10 NC, D11 VDDIOP (power), H3 VDDIOM (power), H8 GND (power), H9 GND (power), H10 GND (power), J3 GND (power), J8 GND (power), J9 GND (power), J10 GND (power), J14 VDDIOP (power), K8 GND (power), K9 GND (power), K10 GND (power), K14 VDDCORE (power), L4 VDDIOM (power), M4 VDDCORE (power), N4 VDDIOM (power), P9 GNDPLL (power), P11 VDDIOP (power), P12 VDDCORE (power), P15 VDDIOP (power), R3 GND (power), R10 VDDPLL (power), R16 GND (power), T5 VDDIOP (power), T10 VDDOSC (power), T11 GNDOSC (power), U4 GND (power), U6 VDDIOP (power), U7 GND (power)

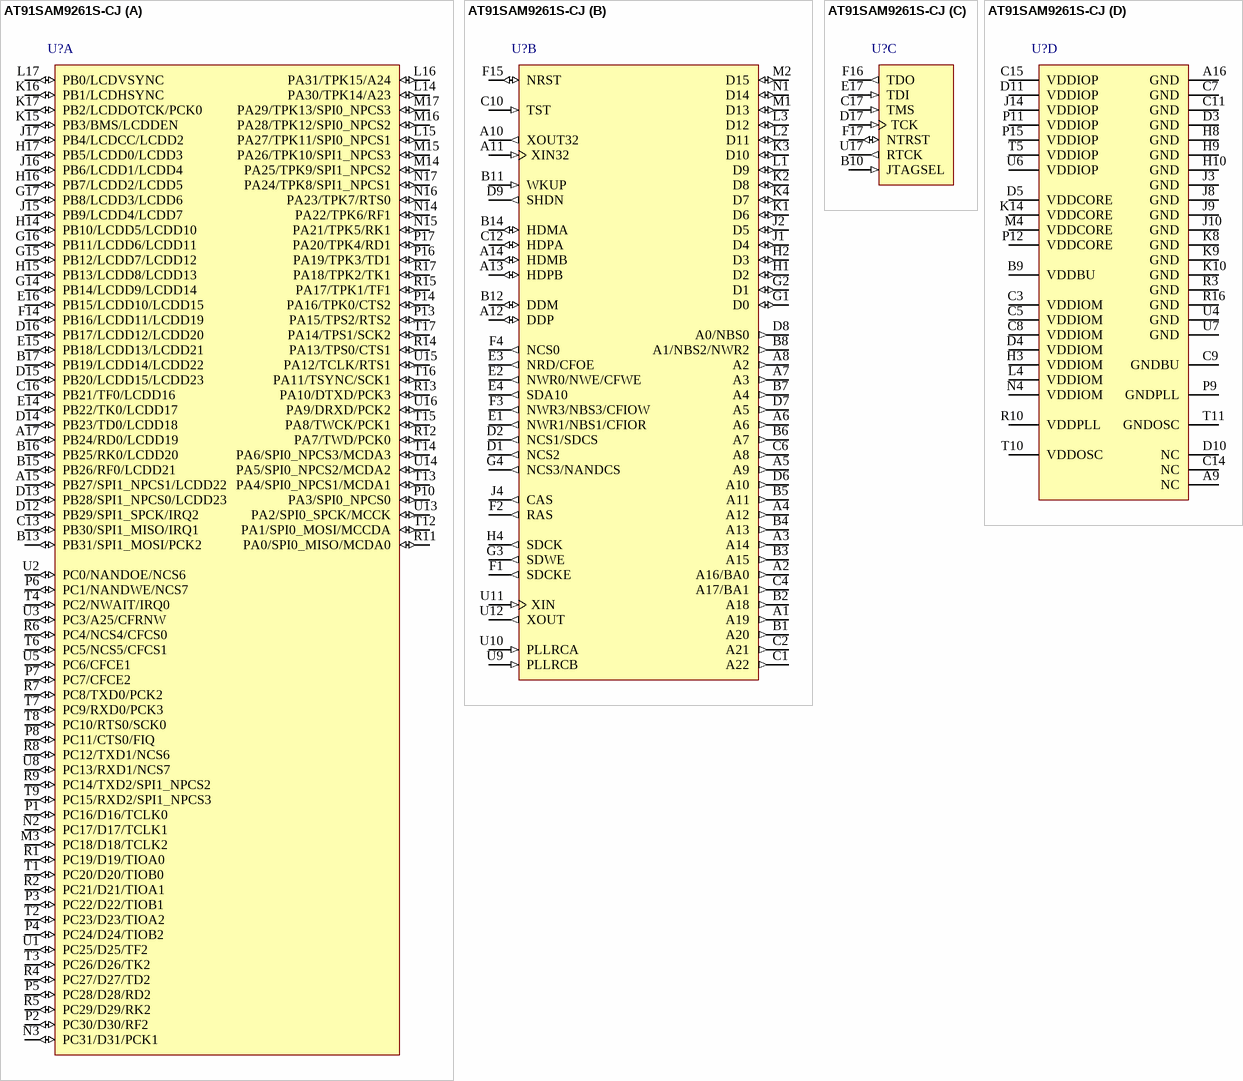
[diagram p43: symbol AT91SAM9261S-CJ]

## AT91SAM9261S-CJ
designator U?
AT91 ARM Thumb 32-bit Microcontroller, 32KB ROM, 16KB SRAM, EBI, FS USB, LCD Controller, 217-Pin LFBGA, Industrial Grade (-40°C to 85°C), Pb-Free; ComponentAvailability: Not recommended for new design.; Published: 20-Sep-2010; DatasheetVersion: revE, Sep-2009; PackageVersion: 2009; PackageReference: LFBGA217; Publisher: Altium Limited; PackageDescription: 217-Ball Plastic Low Profile Fine-Pitch BGA, 15 x 15 mm Body, 0.8 mm Pitch; Code_JEDEC: MO-205; ComponentLink1Description: Manufacturer Link; ComponentLink1URL: http://www.atmel.com/products/AT91/default.asp?; ComponentLink2Description: AT91SAM9261S Datasheet; ComponentLink2URL: http://www.atmel.com/dyn/resources/prod_documents/doc6242.pdf; ComponentLink3Description: AT91SAM9261S Summary; ComponentLink3URL: http://www.atmel.com/dyn/resources/prod_documents/6242s.pdf; ComponentLink4Description: ARM926EJ-S Reference Manual; ComponentLink4URL: http://www.atmel.com/dyn/resources/prod_documents/ARM_926EJS_TRM.pdf; ComponentLink5Description: Atmel.com Home; ComponentLink5URL: http://www.atmel.com
footprint LFBGA217 (BGA, 208-Leads, Body 15x15mm, Pitch 0.8mm)
part A pins: A15 PB27/SPI1_NPCS1/LCDD22 (io), A17 PB24/RD0/LCDD19 (io), B13 PB31/SPI1_MOSI/PCK2 (io), B15 PB26/RF0/LCDD21 (io), B16 PB25/RK0/LCDD20 (io), B17 PB19/LCDD14/LCDD22 (io), C13 PB30/SPI1_MISO/IRQ1 (io), C16 PB21/TF0/LCDD16 (io), D12 PB29/SPI1_SPCK/IRQ2 (io), D13 PB28/SPI1_NPCS0/LCDD23 (io), D14 PB23/TD0/LCDD18 (io), D15 PB20/LCDD15/LCDD23 (io), D16 PB17/LCDD12/LCDD20 (io), E14 PB22/TK0/LCDD17 (io), E15 PB18/LCDD13/LCDD21 (io), E16 PB15/LCDD10/LCDD15 (io), F14 PB16/LCDD11/LCDD19 (io), G14 PB14/LCDD9/LCDD14 (io), G15 PB12/LCDD7/LCDD12 (io), G16 PB11/LCDD6/LCDD11 (io), G17 PB8/LCDD3/LCDD6 (io), H14 PB10/LCDD5/LCDD10 (io), H15 PB13/LCDD8/LCDD13 (io), H16 PB7/LCDD2/LCDD5 (io), H17 PB5/LCDD0/LCDD3 (io), J15 PB9/LCDD4/LCDD7 (io), J16 PB6/LCDD1/LCDD4 (io), J17 PB4/LCDCC/LCDD2 (io), K15 PB3/BMS/LCDDEN (io), K16 PB1/LCDHSYNC (io), K17 PB2/LCDDOTCK/PCK0 (io), L14 PA30/TPK14/A23 (io), L15 PA27/TPK11/SPI0_NPCS1 (io), L16 PA31/TPK15/A24 (io), L17 PB0/LCDVSYNC (io), M3 PC18/D18/TCLK2 (io), M14 PA25/TPK9/SPI1_NPCS2 (io), M15 PA26/TPK10/SPI1_NPCS3 (io), M16 PA28/TPK12/SPI0_NPCS2 (io), M17 PA29/TPK13/SPI0_NPCS3 (io), N2 PC17/D17/TCLK1 (io), N3 PC31/D31/PCK1 (io), N14 PA22/TPK6/RF1 (io), N15 PA21/TPK5/RK1 (io), N16 PA23/TPK7/RTS0 (io), N17 PA24/TPK8/SPI1_NPCS1 (io), P1 PC16/D16/TCLK0 (io), P2 PC30/D30/RF2 (io), P3 PC22/D22/TIOB1 (io), P4 PC24/D24/TIOB2 (io), P5 PC28/D28/RD2 (io), P6 PC1/NANDWE/NCS7 (io), P7 PC7/CFCE2 (io), P8 PC11/CTS0/FIQ (io), P10 PA3/SPI0_NPCS0 (io), P13 PA15/TPS2/RTS2 (io), P14 PA16/TPK0/CTS2 (io), P16 PA19/TPK3/TD1 (io), P17 PA20/TPK4/RD1 (io), R1 PC19/D19/TIOA0 (io), R2 PC21/D21/TIOA1 (io), R4 PC27/D27/TD2 (io), R5 PC29/D29/RK2 (io), R6 PC4/NCS4/CFCS0 (io), R7 PC8/TXD0/PCK2 (io), R8 PC12/TXD1/NCS6 (io), R9 PC14/TXD2/SPI1_NPCS2 (io), R11 PA0/SPI0_MISO/MCDA0 (io), R12 PA7/TWD/PCK0 (io), R13 PA10/DTXD/PCK3 (io), R14 PA13/TPS0/CTS1 (io), R15 PA17/TPK1/TF1 (io), R17 PA18/TPK2/TK1 (io), T1 PC20/D20/TIOB0 (io), T2 PC23/D23/TIOA2 (io), T3 PC26/D26/TK2 (io), T4 PC2/NWAIT/IRQ0 (io), T6 PC5/NCS5/CFCS1 (io), T7 PC9/RXD0/PCK3 (io), T8 PC10/RTS0/SCK0 (io), T9 PC15/RXD2/SPI1_NPCS3 (io), T12 PA1/SPI0_MOSI/MCCDA (io), T13 PA4/SPI0_NPCS1/MCDA1 (io), T14 PA6/SPI0_NPCS3/MCDA3 (io), T15 PA8/TWCK/PCK1 (io), T16 PA11/TSYNC/SCK1 (io), T17 PA14/TPS1/SCK2 (io), U1 PC25/D25/TF2 (io), U2 PC0/NANDOE/NCS6 (io), U3 PC3/A25/CFRNW (io), U5 PC6/CFCE1 (io), U8 PC13/RXD1/NCS7 (io), U13 PA2/SPI0_SPCK/MCCK (io), U14 PA5/SPI0_NPCS2/MCDA2 (io), U15 PA12/TCLK/RTS1 (io), U16 PA9/DRXD/PCK2 (io)
part B pins: A1 A19 (out), A2 A16/BA0 (out), A3 A14 (out), A4 A12 (out), A5 A9 (out), A6 (out), A7 A3 (out), A8 A2 (out), A10 XOUT32 (out), A11 XIN32 (in), A12 DDP (io), A13 HDPB (io), A14 HDMB (io), B1 A20 (out), B2 A18 (out), B3 A15 (out), B4 A13 (out), B5 A11 (out), B6 A7 (out), B7 A4 (out), B8 A1/NBS2/NWR2 (out), B11 WKUP (in), B12 DDM (io), B14 HDMA (io), C1 A22 (out), C2 A21 (out), C4 A17/BA1 (out), C6 A8 (out), C10 TST (in), C12 HDPA (io), D1 NCS2 (out), D2 NCS1/SDCS (out), D6 A10 (out), D7 A5 (out), D8 A0/NBS0 (out), D9 SHDN (out), E1 NWR1/NBS1/CFIOR (out), E2 NWR0/NWE/CFWE (out), E3 NRD/CFOE (out), E4 SDA10 (out), F1 SDCKE (out), F2 RAS (out), F3 NWR3/NBS3/CFIOW (out), F4 NCS0 (out), F15 NRST (io), G1 D0 (io), G2 D1 (io), G3 SDWE (out), G4 NCS3/NANDCS (out), H1 D2 (io), H2 D3 (io), H4 SDCK (out), J1 D4 (io), J2 D5 (io), J4 CAS (out), K1 D6 (io), K2 D8 (io), K3 D10 (io), K4 D7 (io), L1 D9 (io), L2 D11 (io), L3 D12 (io), M1 D13 (io), M2 D15 (io), N1 D14 (io), U9 PLLRCB (in), U10 PLLRCA (in), U11 XIN (in), U12 XOUT (out)
part C pins: B10 JTAGSEL (in), C17 TMS (in), D17 TCK (in), E17 TDI (in), F16 TDO (out), F17 NTRST (io), U17 RTCK (out)
part D pins: A9 NC, A16 GND (power), B9 VDDBU (power), C3 VDDIOM (power), C5 VDDIOM (power), C7 GND (power), C8 VDDIOM (power), C9 GNDBU (power), C11 GND (power), C14 NC, C15 VDDIOP (power), D3 GND (power), D4 VDDIOM (power), D5 VDDCORE (power), D10 NC, D11 VDDIOP (power), H3 VDDIOM (power), H8 GND (power), H9 GND (power), H10 GND (power), J3 GND (power), J8 GND (power), J9 GND (power), J10 GND (power), J14 VDDIOP (power), K8 GND (power), K9 GND (power), K10 GND (power), K14 VDDCORE (power), L4 VDDIOM (power), M4 VDDCORE (power), N4 VDDIOM (power), P9 GNDPLL (power), P11 VDDIOP (power), P12 VDDCORE (power), P15 VDDIOP (power), R3 GND (power), R10 VDDPLL (power), R16 GND (power), T5 VDDIOP (power), T10 VDDOSC (power), T11 GNDOSC (power), U4 GND (power), U6 VDDIOP (power), U7 GND (power)

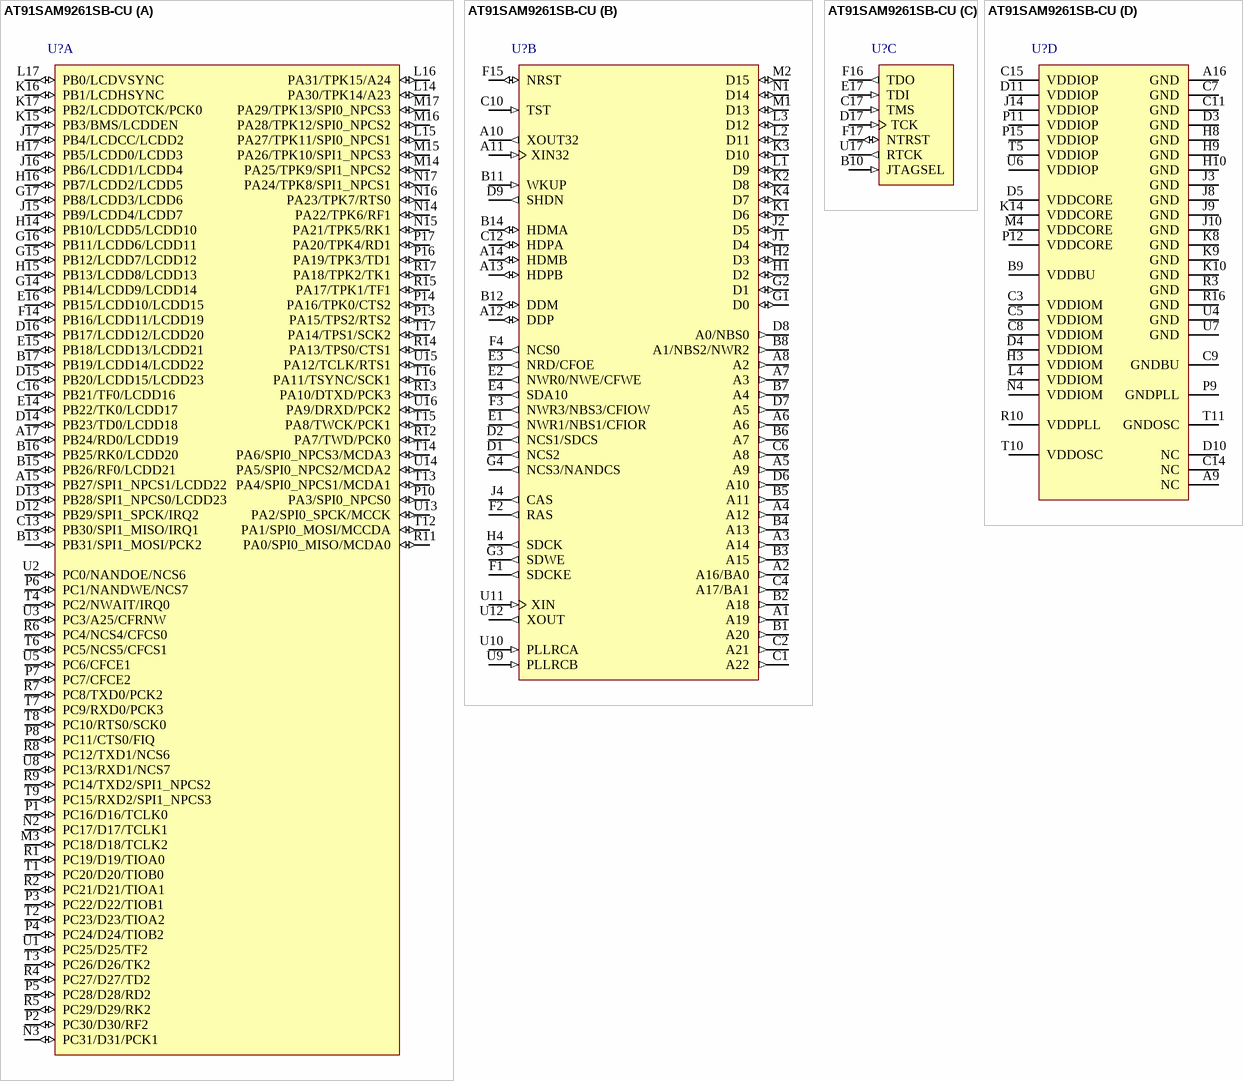
[diagram p44: symbol AT91SAM9261SB-CU]

## AT91SAM9261SB-CU
designator U?
AT91 ARM Thumb 32-bit Microcontroller, 32KB ROM, 16KB SRAM, EBI, FS USB, LCD Controller, 217-Pin LFBGA, Industrial Grade (-40°C to 85°C), Pb-Free; ComponentAvailability: Not recommended for new design.; Published: 20-Sep-2010; DatasheetVersion: revE, Sep-2009; PackageVersion: 2009; PackageReference: LFBGA217; Publisher: Altium Limited; PackageDescription: 217-Ball Plastic Low Profile Fine-Pitch BGA, 15 x 15 mm Body, 0.8 mm Pitch; Supplier 1: Digi-Key; Supplier Part Number 1: AT91SAM9261SB-CU-ND; Supplier 2: Farnell; Supplier Part Number 2: 1715467; Supplier 3: Mouser; Supplier Part Number 3: 556-AT91SAM9261SB-CU; Code_JEDEC: MO-205; ComponentLink1Description: Manufacturer Link; ComponentLink1URL: http://www.atmel.com/products/AT91/default.asp?; ComponentLink2Description: AT91SAM9261S Datasheet; ComponentLink2URL: http://www.atmel.com/dyn/resources/prod_documents/doc6242.pdf; ComponentLink3Description: AT91SAM9261S Summary; ComponentLink3URL: http://www.atmel.com/dyn/resources/prod_documents/6242s.pdf; ComponentLink4Description: ARM926EJ-S Reference Manual; ComponentLink4URL: http://www.atmel.com/dyn/resources/prod_documents/ARM_926EJS_TRM.pdf; ComponentLink5Description: Atmel.com Home; ComponentLink5URL: http://www.atmel.com
footprint LFBGA217 (BGA, 208-Leads, Body 15x15mm, Pitch 0.8mm)
part A pins: A15 PB27/SPI1_NPCS1/LCDD22 (io), A17 PB24/RD0/LCDD19 (io), B13 PB31/SPI1_MOSI/PCK2 (io), B15 PB26/RF0/LCDD21 (io), B16 PB25/RK0/LCDD20 (io), B17 PB19/LCDD14/LCDD22 (io), C13 PB30/SPI1_MISO/IRQ1 (io), C16 PB21/TF0/LCDD16 (io), D12 PB29/SPI1_SPCK/IRQ2 (io), D13 PB28/SPI1_NPCS0/LCDD23 (io), D14 PB23/TD0/LCDD18 (io), D15 PB20/LCDD15/LCDD23 (io), D16 PB17/LCDD12/LCDD20 (io), E14 PB22/TK0/LCDD17 (io), E15 PB18/LCDD13/LCDD21 (io), E16 PB15/LCDD10/LCDD15 (io), F14 PB16/LCDD11/LCDD19 (io), G14 PB14/LCDD9/LCDD14 (io), G15 PB12/LCDD7/LCDD12 (io), G16 PB11/LCDD6/LCDD11 (io), G17 PB8/LCDD3/LCDD6 (io), H14 PB10/LCDD5/LCDD10 (io), H15 PB13/LCDD8/LCDD13 (io), H16 PB7/LCDD2/LCDD5 (io), H17 PB5/LCDD0/LCDD3 (io), J15 PB9/LCDD4/LCDD7 (io), J16 PB6/LCDD1/LCDD4 (io), J17 PB4/LCDCC/LCDD2 (io), K15 PB3/BMS/LCDDEN (io), K16 PB1/LCDHSYNC (io), K17 PB2/LCDDOTCK/PCK0 (io), L14 PA30/TPK14/A23 (io), L15 PA27/TPK11/SPI0_NPCS1 (io), L16 PA31/TPK15/A24 (io), L17 PB0/LCDVSYNC (io), M3 PC18/D18/TCLK2 (io), M14 PA25/TPK9/SPI1_NPCS2 (io), M15 PA26/TPK10/SPI1_NPCS3 (io), M16 PA28/TPK12/SPI0_NPCS2 (io), M17 PA29/TPK13/SPI0_NPCS3 (io), N2 PC17/D17/TCLK1 (io), N3 PC31/D31/PCK1 (io), N14 PA22/TPK6/RF1 (io), N15 PA21/TPK5/RK1 (io), N16 PA23/TPK7/RTS0 (io), N17 PA24/TPK8/SPI1_NPCS1 (io), P1 PC16/D16/TCLK0 (io), P2 PC30/D30/RF2 (io), P3 PC22/D22/TIOB1 (io), P4 PC24/D24/TIOB2 (io), P5 PC28/D28/RD2 (io), P6 PC1/NANDWE/NCS7 (io), P7 PC7/CFCE2 (io), P8 PC11/CTS0/FIQ (io), P10 PA3/SPI0_NPCS0 (io), P13 PA15/TPS2/RTS2 (io), P14 PA16/TPK0/CTS2 (io), P16 PA19/TPK3/TD1 (io), P17 PA20/TPK4/RD1 (io), R1 PC19/D19/TIOA0 (io), R2 PC21/D21/TIOA1 (io), R4 PC27/D27/TD2 (io), R5 PC29/D29/RK2 (io), R6 PC4/NCS4/CFCS0 (io), R7 PC8/TXD0/PCK2 (io), R8 PC12/TXD1/NCS6 (io), R9 PC14/TXD2/SPI1_NPCS2 (io), R11 PA0/SPI0_MISO/MCDA0 (io), R12 PA7/TWD/PCK0 (io), R13 PA10/DTXD/PCK3 (io), R14 PA13/TPS0/CTS1 (io), R15 PA17/TPK1/TF1 (io), R17 PA18/TPK2/TK1 (io), T1 PC20/D20/TIOB0 (io), T2 PC23/D23/TIOA2 (io), T3 PC26/D26/TK2 (io), T4 PC2/NWAIT/IRQ0 (io), T6 PC5/NCS5/CFCS1 (io), T7 PC9/RXD0/PCK3 (io), T8 PC10/RTS0/SCK0 (io), T9 PC15/RXD2/SPI1_NPCS3 (io), T12 PA1/SPI0_MOSI/MCCDA (io), T13 PA4/SPI0_NPCS1/MCDA1 (io), T14 PA6/SPI0_NPCS3/MCDA3 (io), T15 PA8/TWCK/PCK1 (io), T16 PA11/TSYNC/SCK1 (io), T17 PA14/TPS1/SCK2 (io), U1 PC25/D25/TF2 (io), U2 PC0/NANDOE/NCS6 (io), U3 PC3/A25/CFRNW (io), U5 PC6/CFCE1 (io), U8 PC13/RXD1/NCS7 (io), U13 PA2/SPI0_SPCK/MCCK (io), U14 PA5/SPI0_NPCS2/MCDA2 (io), U15 PA12/TCLK/RTS1 (io), U16 PA9/DRXD/PCK2 (io)
part B pins: A1 A19 (out), A2 A16/BA0 (out), A3 A14 (out), A4 A12 (out), A5 A9 (out), A6 (out), A7 A3 (out), A8 A2 (out), A10 XOUT32 (out), A11 XIN32 (in), A12 DDP (io), A13 HDPB (io), A14 HDMB (io), B1 A20 (out), B2 A18 (out), B3 A15 (out), B4 A13 (out), B5 A11 (out), B6 A7 (out), B7 A4 (out), B8 A1/NBS2/NWR2 (out), B11 WKUP (in), B12 DDM (io), B14 HDMA (io), C1 A22 (out), C2 A21 (out), C4 A17/BA1 (out), C6 A8 (out), C10 TST (in), C12 HDPA (io), D1 NCS2 (out), D2 NCS1/SDCS (out), D6 A10 (out), D7 A5 (out), D8 A0/NBS0 (out), D9 SHDN (out), E1 NWR1/NBS1/CFIOR (out), E2 NWR0/NWE/CFWE (out), E3 NRD/CFOE (out), E4 SDA10 (out), F1 SDCKE (out), F2 RAS (out), F3 NWR3/NBS3/CFIOW (out), F4 NCS0 (out), F15 NRST (io), G1 D0 (io), G2 D1 (io), G3 SDWE (out), G4 NCS3/NANDCS (out), H1 D2 (io), H2 D3 (io), H4 SDCK (out), J1 D4 (io), J2 D5 (io), J4 CAS (out), K1 D6 (io), K2 D8 (io), K3 D10 (io), K4 D7 (io), L1 D9 (io), L2 D11 (io), L3 D12 (io), M1 D13 (io), M2 D15 (io), N1 D14 (io), U9 PLLRCB (in), U10 PLLRCA (in), U11 XIN (in), U12 XOUT (out)
part C pins: B10 JTAGSEL (in), C17 TMS (in), D17 TCK (in), E17 TDI (in), F16 TDO (out), F17 NTRST (io), U17 RTCK (out)
part D pins: A9 NC, A16 GND (power), B9 VDDBU (power), C3 VDDIOM (power), C5 VDDIOM (power), C7 GND (power), C8 VDDIOM (power), C9 GNDBU (power), C11 GND (power), C14 NC, C15 VDDIOP (power), D3 GND (power), D4 VDDIOM (power), D5 VDDCORE (power), D10 NC, D11 VDDIOP (power), H3 VDDIOM (power), H8 GND (power), H9 GND (power), H10 GND (power), J3 GND (power), J8 GND (power), J9 GND (power), J10 GND (power), J14 VDDIOP (power), K8 GND (power), K9 GND (power), K10 GND (power), K14 VDDCORE (power), L4 VDDIOM (power), M4 VDDCORE (power), N4 VDDIOM (power), P9 GNDPLL (power), P11 VDDIOP (power), P12 VDDCORE (power), P15 VDDIOP (power), R3 GND (power), R10 VDDPLL (power), R16 GND (power), T5 VDDIOP (power), T10 VDDOSC (power), T11 GNDOSC (power), U4 GND (power), U6 VDDIOP (power), U7 GND (power)

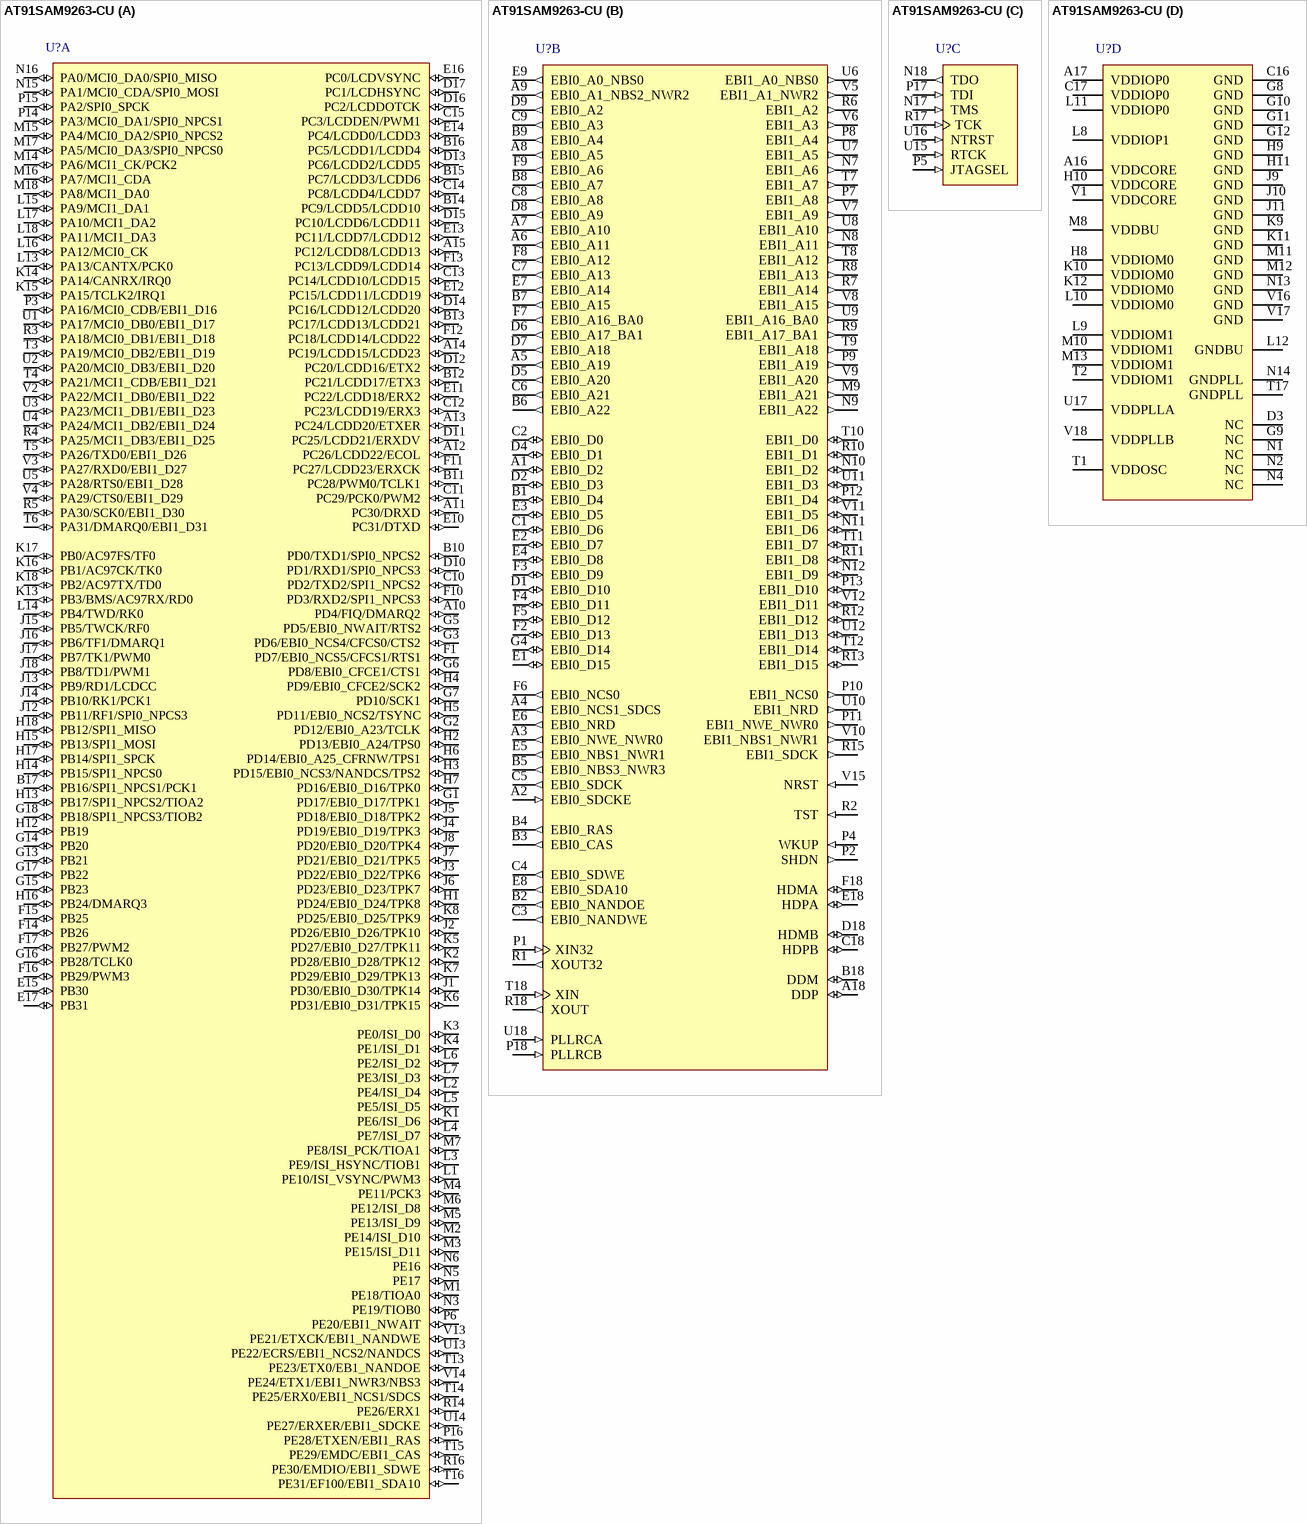
[diagram p45: symbol AT91SAM9263-CU]

## AT91SAM9263-CU
designator U?
AT91 ARM Thumb 32-bit Microcontroller, 96KB SRAM, 2EBI, FS USB, 20-ch. PDC, LCD Controller, 324-Pin TFBGA, Industrial Grade (-40°C to 85°C), Pb-Free; Published: 20-Sep-2010; DatasheetVersion: revH, Jul-2009; PackageVersion: 2009; PackageReference: TFBGA324; Publisher: Altium Limited; PackageDescription: 324-Ball Low Profile Fine-Pitch BGA, 15 x 15 mm Body, 0.8 mm Pitch; Supplier 1: Mouser; Supplier Part Number 1: 556-A91SAM9263-CU; Code_JEDEC: MO-210; ComponentLink1Description: Manufacturer Link; ComponentLink1URL: http://www.atmel.com/products/AT91/default.asp?; ComponentLink2Description: AT91SAM9263 Datasheet; ComponentLink2URL: http://www.atmel.com/dyn/resources/prod_documents/doc6249.pdf; ComponentLink3Description: AT91SAM9263 Summary; ComponentLink3URL: http://www.atmel.com/dyn/resources/prod_documents/6249s.pdf; ComponentLink4Description: ARM926EJ-S Reference Manual; ComponentLink4URL: http://www.atmel.com/dyn/resources/prod_documents/ARM_926EJS_TRM.pdf; ComponentLink5Description: Atmel.com Home; ComponentLink5URL: http://www.atmel.com
footprint TFBGA324 (BGA, 324-Leads, Body 15x15mm, Pitch 0.8mm)
part A pins: A10 PD4/FIQ/DMARQ2 (io), A11 PC30/DRXD (io), A12 PC26/LCDD22/ECOL (io), A13 PC24/LCDD20/ETXER (io), A14 PC19/LCDD15/LCDD23 (io), A15 PC12/LCDD8/LCDD13 (io), B10 PD0/TXD1/SPI0_NPCS2 (io), B11 PC28/PWM0/TCLK1 (io), B12 PC21/LCDD17/ETX3 (io), B13 PC17/LCDD13/LCDD21 (io), B14 PC9/LCDD5/LCDD10 (io), B15 PC7/LCDD3/LCDD6 (io), B16 PC5/LCDD1/LCDD4 (io), B17 PB16/SPI1_NPCS1/PCK1 (io), C10 PD2/TXD2/SPI1_NPCS2 (io), C11 PC29/PCK0/PWM2 (io), C12 PC23/LCDD19/ERX3 (io), C13 PC14/LCDD10/LCDD15 (io), C14 PC8/LCDD4/LCDD7 (io), C15 PC3/LCDDEN/PWM1 (io), D10 PD1/RXD1/SPI0_NPCS3 (io), D11 PC25/LCDD21/ERXDV (io), D12 PC20/LCDD16/ETX2 (io), D13 PC6/LCDD2/LCDD5 (io), D14 PC16/LCDD12/LCDD20 (io), D15 PC10/LCDD6/LCDD11 (io), D16 PC2/LCDDOTCK (io), D17 PC1/LCDHSYNC (io), E10 PC31/DTXD (io), E11 PC22/LCDD18/ERX2 (io), E12 PC15/LCDD11/LCDD19 (io), E13 PC11/LCDD7/LCDD12 (io), E14 PC4/LCDD0/LCDD3 (io), E15 PB30 (io), E16 PC0/LCDVSYNC (io), E17 PB31 (io), F1 PD7/EBI0_NCS5/CFCS1/RTS1 (io), F10 PD3/RXD2/SPI1_NPCS3 (io), F11 PC27/LCDD23/ERXCK (io), F12 PC18/LCDD14/LCDD22 (io), F13 PC13/LCDD9/LCDD14 (io), F14 PB26 (io), F15 PB25 (io), F16 PB29/PWM3 (io), F17 PB27/PWM2 (io), G1 PD17/EBI0_D17/TPK1 (io), G2 PD12/EBI0_A23/TCLK (io), G3 PD6/EBI0_NCS4/CFCS0/CTS2 (io), G5 PD5/EBI0_NWAIT/RTS2 (io), G6 PD8/EBI0_CFCE1/CTS1 (io), G7 PD10/SCK1 (io), G13 PB21 (io), G14 PB20 (io), G15 PB23 (io), G16 PB28/TCLK0 (io), G17 PB22 (io), G18 PB18/SPI1_NPCS3/TIOB2 (io), H1 PD24/EBI0_D24/TPK8 (io), H2 PD13/EBI0_A24/TPS0 (io), H3 PD15/EBI0_NCS3/NANDCS/TPS2 (io), H4 PD9/EBI0_CFCE2/SCK2 (io), H5 PD11/EBI0_NCS2/TSYNC (io), H6 PD14/EBI0_A25_CFRNW/TPS1 (io), H7 PD16/EBI0_D16/TPK0 (io), H12 PB19 (io), H13 PB17/SPI1_NPCS2/TIOA2 (io), H14 PB15/SPI1_NPCS0 (io), H15 PB13/SPI1_MOSI (io), H16 PB24/DMARQ3 (io), H17 PB14/SPI1_SPCK (io), H18 PB12/SPI1_MISO (io), J1 PD30/EBI0_D30/TPK14 (io), J2 PD26/EBI0_D26/TPK10 (io), J3 PD22/EBI0_D22/TPK6 (io), J4 PD19/EBI0_D19/TPK3 (io), J5 PD18/EBI0_D18/TPK2 (io), J6 PD23/EBI0_D23/TPK7 (io), J7 PD21/EBI0_D21/TPK5 (io), J8 PD20/EBI0_D20/TPK4 (io), J12 PB11/RF1/SPI0_NPCS3 (io), J13 PB9/RD1/LCDCC (io), J14 PB10/RK1/PCK1 (io), J15 PB5/TWCK/RF0 (io), J16 PB6/TF1/DMARQ1 (io), J17 PB7/TK1/PWM0 (io), J18 PB8/TD1/PWM1 (io), K1 PE6/ISI_D6 (io), K2 PD28/EBI0_D28/TPK12 (io), K3 PE0/ISI_D0 (io), K4 PE1/ISI_D1 (io), K5 PD27/EBI0_D27/TPK11 (io), K6 PD31/EBI0_D31/TPK15 (io), K7 PD29/EBI0_D29/TPK13 (io), K8 PD25/EBI0_D25/TPK9 (io), K13 PB3/BMS/AC97RX/RD0 (io), K14 PA14/CANRX/IRQ0 (io), K15 PA15/TCLK2/IRQ1 (io), K16 PB1/AC97CK/TK0 (io), K17 PB0/AC97FS/TF0 (io), K18 PB2/AC97TX/TD0 (io), L1 PE10/ISI_VSYNC/PWM3 (io), L2 PE4/ISI_D4 (io), L3 PE9/ISI_HSYNC/TIOB1 (io), L4 PE7/ISI_D7 (io), L5 PE5/ISI_D5 (io), L6 PE2/ISI_D2 (io), L7 PE3/ISI_D3 (io), L13 PA13/CANTX/PCK0 (io), L14 PB4/TWD/RK0 (io), L15 PA9/MCI1_DA1 (io), L16 PA12/MCI0_CK (io), L17 PA10/MCI1_DA2 (io), L18 PA11/MCI1_DA3 (io), M1 PE18/TIOA0 (io), M2 PE14/ISI_D10 (io), M3 PE15/ISI_D11 (io), M4 PE11/PCK3 (io), M5 PE13/ISI_D9 (io), M6 PE12/ISI_D8 (io), M7 PE8/ISI_PCK/TIOA1 (io), M14 PA6/MCI1_CK/PCK2 (io), M15 PA4/MCI0_DA2/SPI0_NPCS2 (io), M16 PA7/MCI1_CDA (io), M17 PA5/MCI0_DA3/SPI0_NPCS0 (io), M18 PA8/MCI1_DA0 (io), N3 PE19/TIOB0 (io), N5 PE17 (io), N6 PE16 (io), N15 PA1/MCI0_CDA/SPI0_MOSI (io), N16 PA0/MCI0_DA0/SPI0_MISO (io), P3 PA16/MCI0_CDB/EBI1_D16 (io), P6 PE20/EBI1_NWAIT (io), P14 PA3/MCI0_DA1/SPI0_NPCS1 (io), P15 PA2/SPI0_SPCK (io), P16 PE28/ETXEN/EBI1_RAS (io), R3 PA18/MCI0_DB1/EBI1_D18 (io), R4 PA25/MCI1_DB3/EBI1_D25 (io), R5 PA30/SCK0/EBI1_D30 (io), R14 PE26/ERX1 (io), R16 PE30/EMDIO/EBI1_SDWE (io), T3 PA19/MCI0_DB2/EBI1_D19 (io), T4 PA21/MCI1_CDB/EBI1_D21 (io), T5 PA26/TXD0/EBI1_D26 (io), T6 PA31/DMARQ0/EBI1_D31 (io), T13 PE23/ETX0/EB1_NANDOE (io), T14 PE25/ERX0/EBI1_NCS1/SDCS (io), T15 PE29/EMDC/EBI1_CAS (io), T16 PE31/EF100/EBI1_SDA10 (io), U1 PA17/MCI0_DB0/EBI1_D17 (io), U2 PA20/MCI0_DB3/EBI1_D20 (io), U3 PA23/MCI1_DB1/EBI1_D23 (io), U4 PA24/MCI1_DB2/EBI1_D24 (io), U5 PA28/RTS0/EBI1_D28 (io), U13 PE22/ECRS/EBI1_NCS2/NANDCS (io), U14 PE27/ERXER/EBI1_SDCKE (io), V2 PA22/MCI1_DB0/EBI1_D22 (io), V3 PA27/RXD0/EBI1_D27 (io), V4 PA29/CTS0/EBI1_D29 (io), V13 PE21/ETXCK/EBI1_NANDWE (io), V14 PE24/ETX1/EBI1_NWR3/NBS3 (io)
part B pins: A1 EBI0_D2 (io), A2 EBI0_SDCKE (in), A3 EBI0_NWE_NWR0 (out), A4 EBI0_NCS1_SDCS (out), A5 EBI0_A19 (out), A6 EBI0_A11 (out), A7 EBI0_A10 (out), A8 EBI0_A5 (out), A9 EBI0_A1_NBS2_NWR2 (out), A18 DDP (io), B1 EBI0_D4 (io), B2 EBI0_NANDOE (out), B3 EBI0_CAS (out), B4 EBI0_RAS (out), B5 EBI0_NBS3_NWR3 (out), B6 EBI0_A22 (out), B7 EBI0_A15 (out), B8 EBI0_A7 (out), B9 EBI0_A4 (out), B18 DDM (io), C1 EBI0_D6 (io), C2 EBI0_D0 (io), C3 EBI0_NANDWE (out), C4 EBI0_SDWE (out), C5 EBI0_SDCK (out), C6 EBI0_A21 (out), C7 EBI0_A13 (out), C8 EBI0_A8 (out), C9 EBI0_A3 (out), C18 HDPB (io), D1 EBI0_D10 (io), D2 EBI0_D3 (io), D4 EBI0_D1 (io), D5 EBI0_A20 (out), D6 EBI0_A17_BA1 (out), D7 EBI0_A18 (out), D8 EBI0_A9 (out), D9 EBI0_A2 (out), D18 HDMB (io), E1 EBI0_D15 (io), E2 EBI0_D7 (io), E3 EBI0_D5 (io), E4 EBI0_D8 (io), E5 EBI0_NBS1_NWR1 (out), E6 EBI0_NRD (out), E7 EBI0_A14 (out), E8 EBI0_SDA10 (out), E9 EBI0_A0_NBS0 (out), E18 HDPA (io), F2 EBI0_D13 (io), F3 EBI0_D9 (io), F4 EBI0_D11 (io), F5 EBI0_D12 (io), F6 EBI0_NCS0 (out), F7 EBI0_A16_BA0 (out), F8 EBI0_A12 (out), F9 EBI0_A6 (out), F18 HDMA (io), G4 EBI0_D14 (io), M9 EBI1_A21 (out), N7 EBI1_A6 (out), N8 EBI1_A11 (out), N9 EBI1_A22 (out), N10 EBI1_D2 (io), N11 EBI1_D6 (io), N12 EBI1_D9 (io), P1 XIN32 (in), P2 SHDN (out), P4 WKUP (in), P7 EBI1_A8 (out), P8 EBI1_A4 (out), P9 EBI1_A19 (out), P10 EBI1_NCS0 (out), P11 EBI1_NWE_NWR0 (out), P12 EBI1_D4 (io), P13 EBI1_D10 (io), P18 PLLRCB (in), R1 XOUT32 (out), R2 TST (in), R6 EBI1_A2 (out), R7 EBI1_A14 (out), R8 EBI1_A13 (out), R9 EBI1_A17_BA1 (out), R10 EBI1_D1 (io), R11 EBI1_D8 (io), R12 EBI1_D12 (io), R13 EBI1_D15 (io), R15 EBI1_SDCK (out), R18 XOUT (out), T7 EBI1_A7 (out), T8 EBI1_A12 (out), T9 EBI1_A18 (out), T10 EBI1_D0 (io), T11 EBI1_D7 (io), T12 EBI1_D14 (io), T18 XIN (in), U6 EBI1_A0_NBS0 (out), U7 EBI1_A5 (out), U8 EBI1_A10 (out), U9 EBI1_A16_BA0 (out), U10 EBI1_NRD (out), U11 EBI1_D3 (io), U12 EBI1_D13 (io), U18 PLLRCA (in), V5 EBI1_A1_NWR2 (out), V6 EBI1_A3 (out), V7 EBI1_A9 (out), V8 EBI1_A15 (out), V9 EBI1_A20 (out), V10 EBI1_NBS1_NWR1 (out), V11 EBI1_D5 (io), V12 EBI1_D11 (io), V15 NRST (in)
part C pins: N17 TMS (in), N18 TDO (out), P5 JTAGSEL (in), P17 TDI (in), R17 TCK (in), U15 RTCK (in), U16 NTRST (in)
part D pins: A16 VDDCORE (power), A17 VDDIOP0 (power), C16 GND (power), C17 VDDIOP0 (power), D3 NC, G8 GND (power), G9 NC, G10 GND (power), G11 GND (power), G12 GND (power), H8 VDDIOM0 (power), H9 GND (power), H10 VDDCORE (power), H11 GND (power), J9 GND (power), J10 GND (power), J11 GND (power), K9 GND (power), K10 VDDIOM0 (power), K11 GND (power), K12 VDDIOM0 (power), L8 VDDIOP1 (power), L9 VDDIOM1 (power), L10 VDDIOM0 (power), L11 VDDIOP0 (power), L12 GNDBU (power), M8 VDDBU (power), M10 VDDIOM1 (power), M11 GND (power), M12 GND (power), M13 VDDIOM1 (power), N1 NC, N2 NC, N4 NC, N13 GND (power), N14 GNDPLL (power), T1 VDDOSC (power), T2 VDDIOM1 (power), T17 GNDPLL (power), U17 VDDPLLA (power), V1 VDDCORE (power), V16 GND (power), V17 GND (power), V18 VDDPLLB (power)

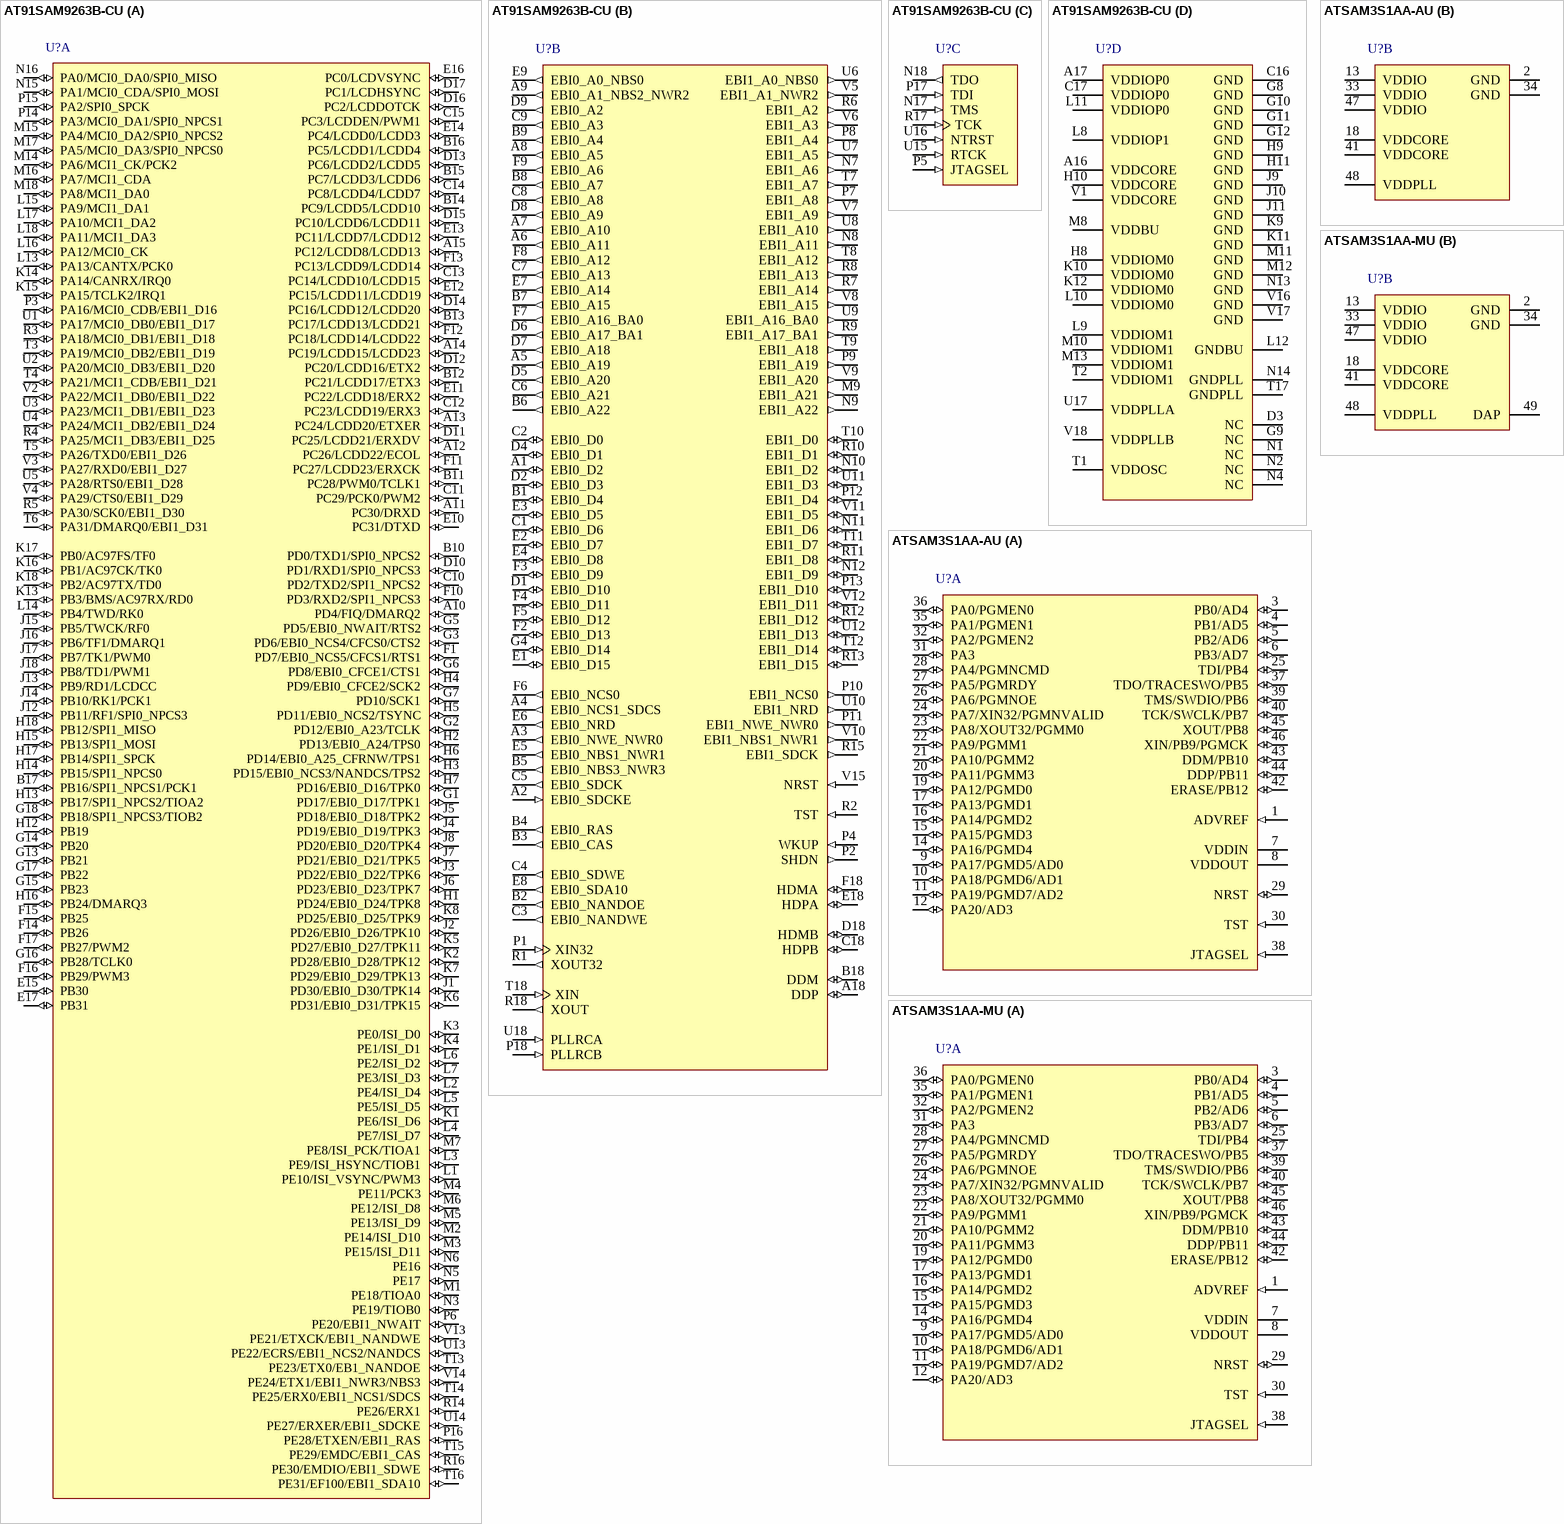
[diagram p46: symbols AT91SAM9263B-CU to ATSAM3S1AA-MU]